# Altium schematic symbol library 10AX090N2F40E2SG.SchLib: 1 symbol
Pins are listed as number, name and electrical type; pins without a type are passive.

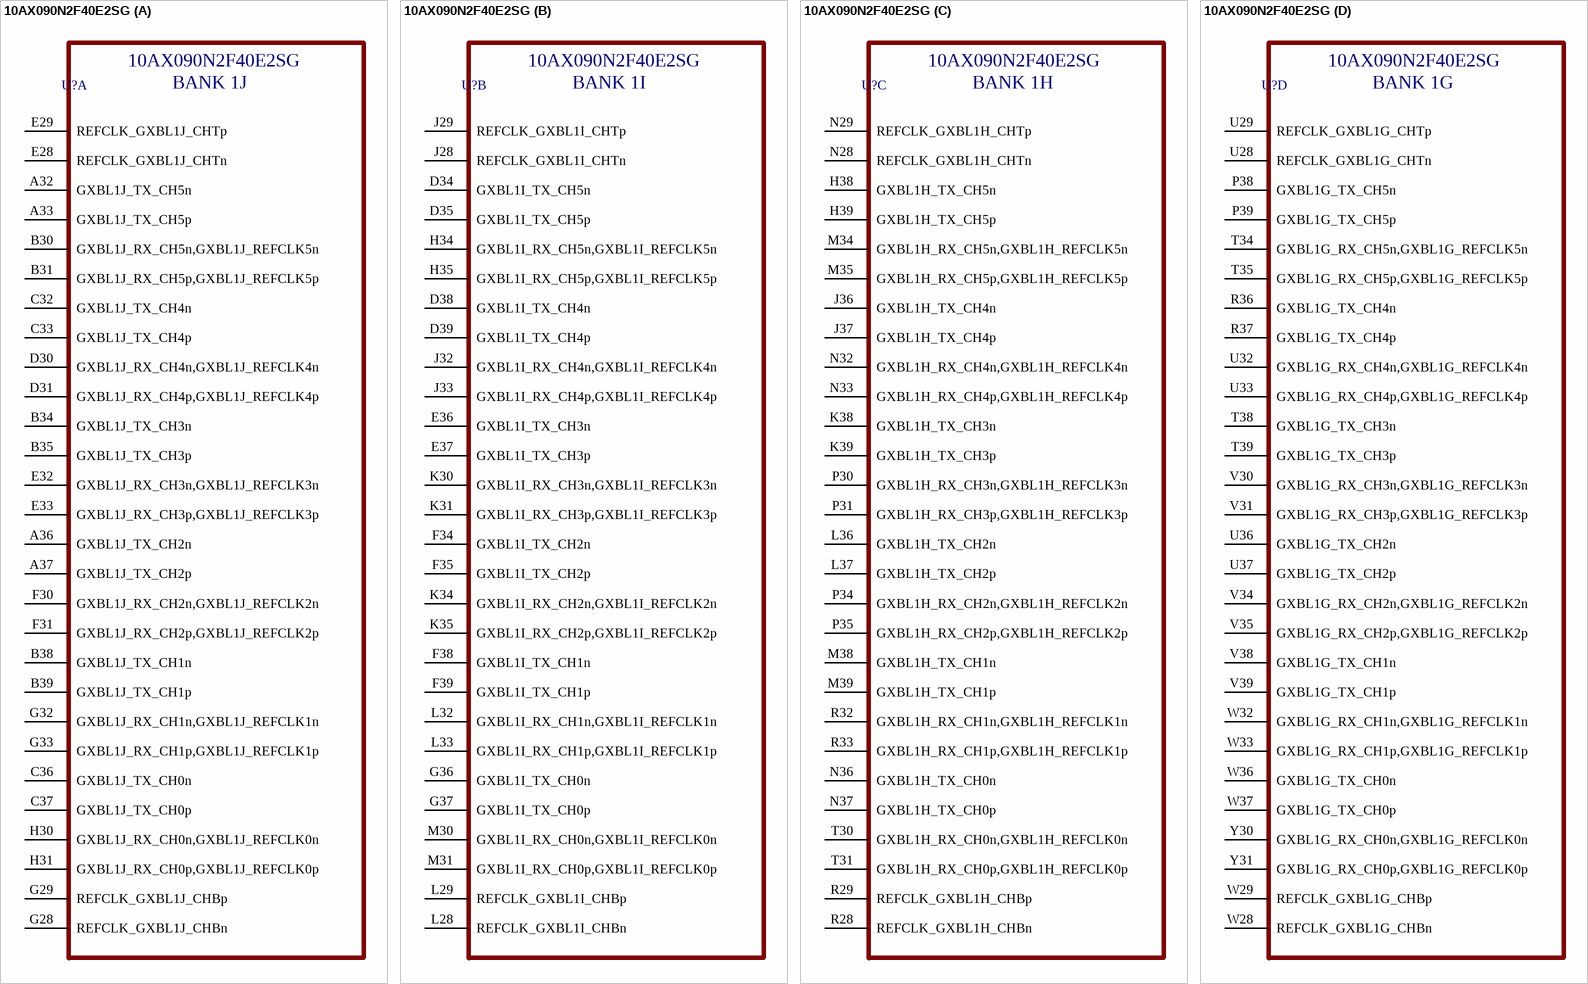
[diagram p0: symbol 10AX090N2F40E2SG]

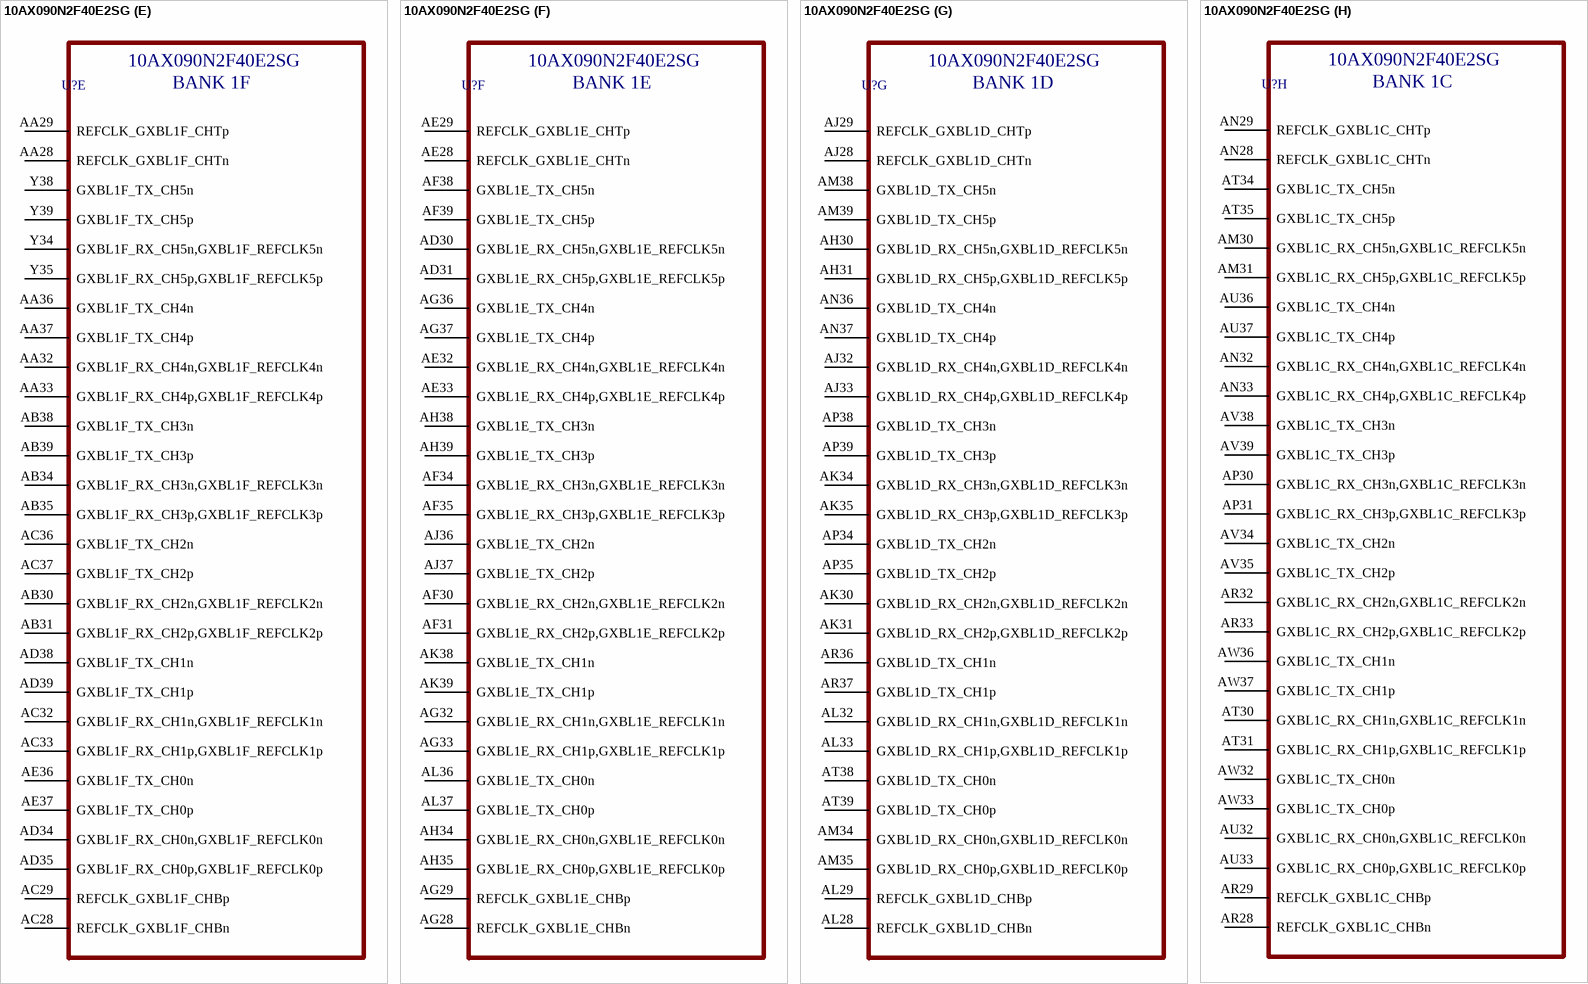
[diagram p1: symbol 10AX090N2F40E2SG]

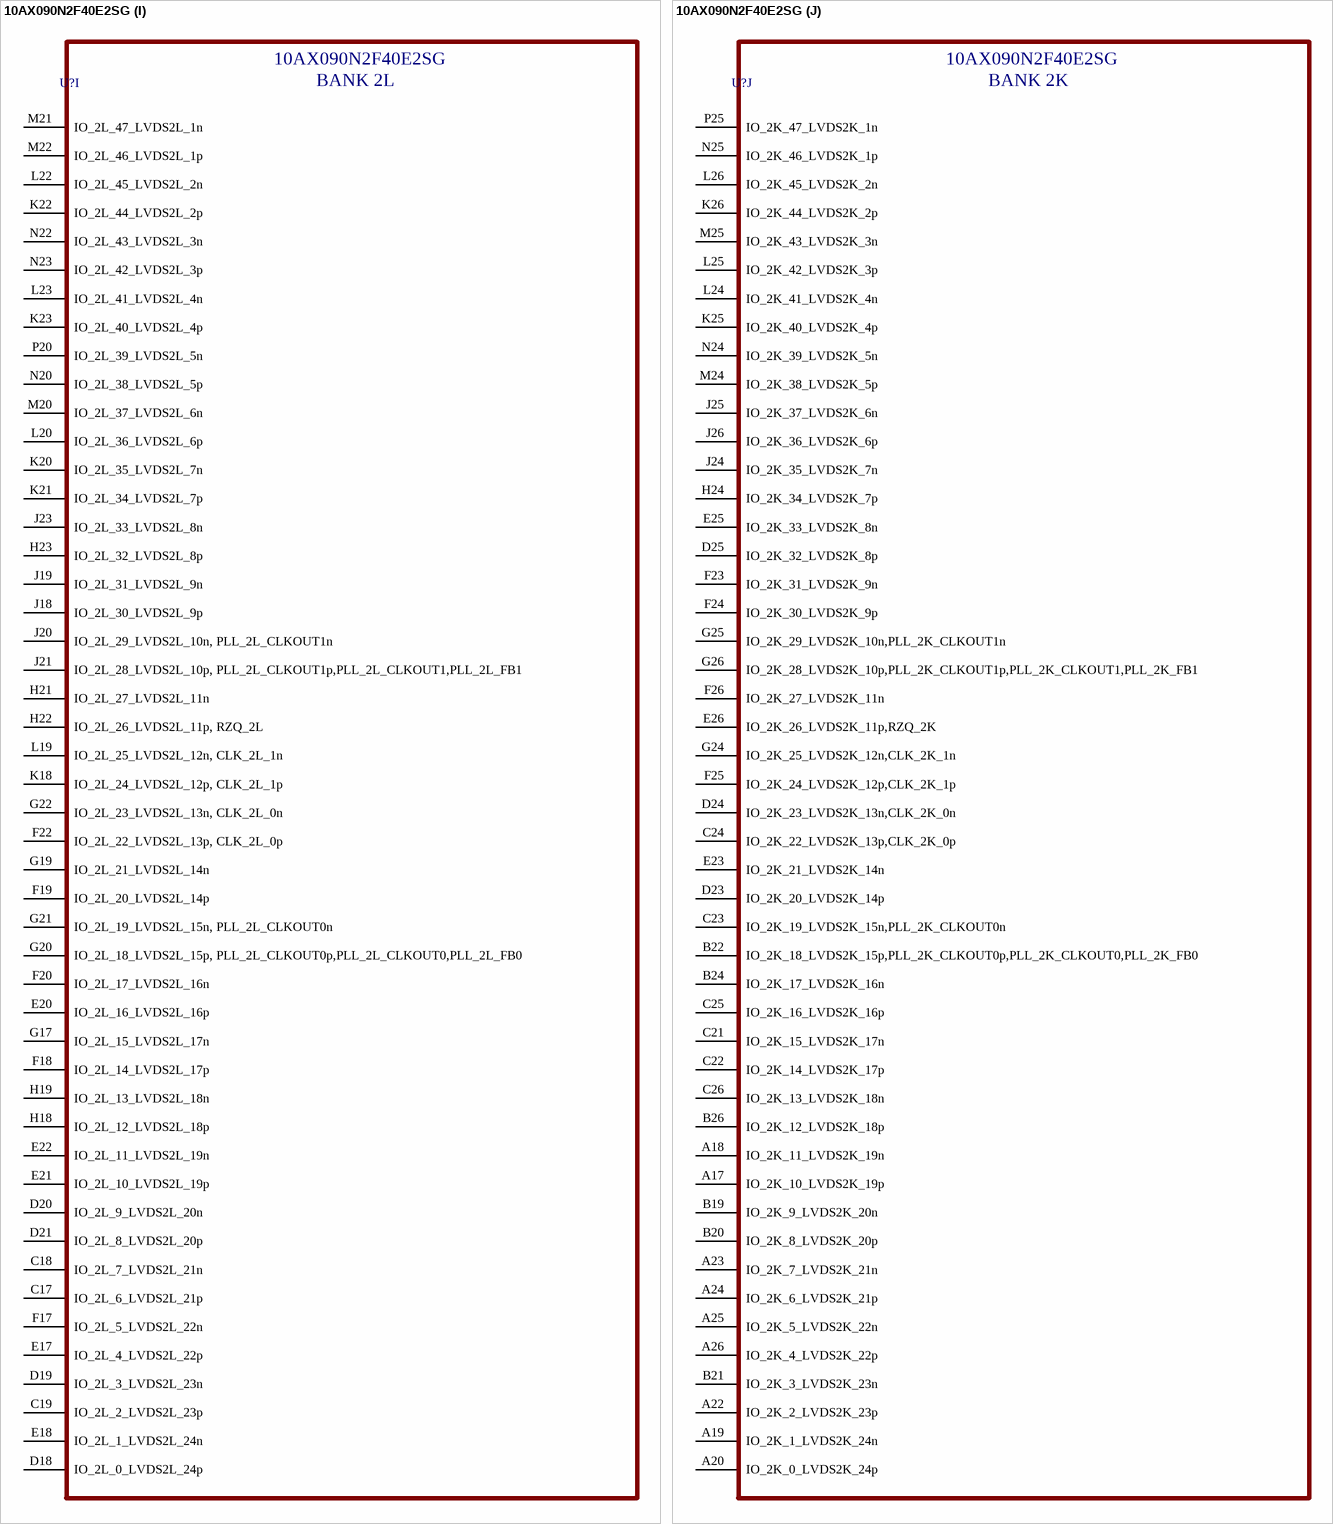
[diagram p2: symbol 10AX090N2F40E2SG]

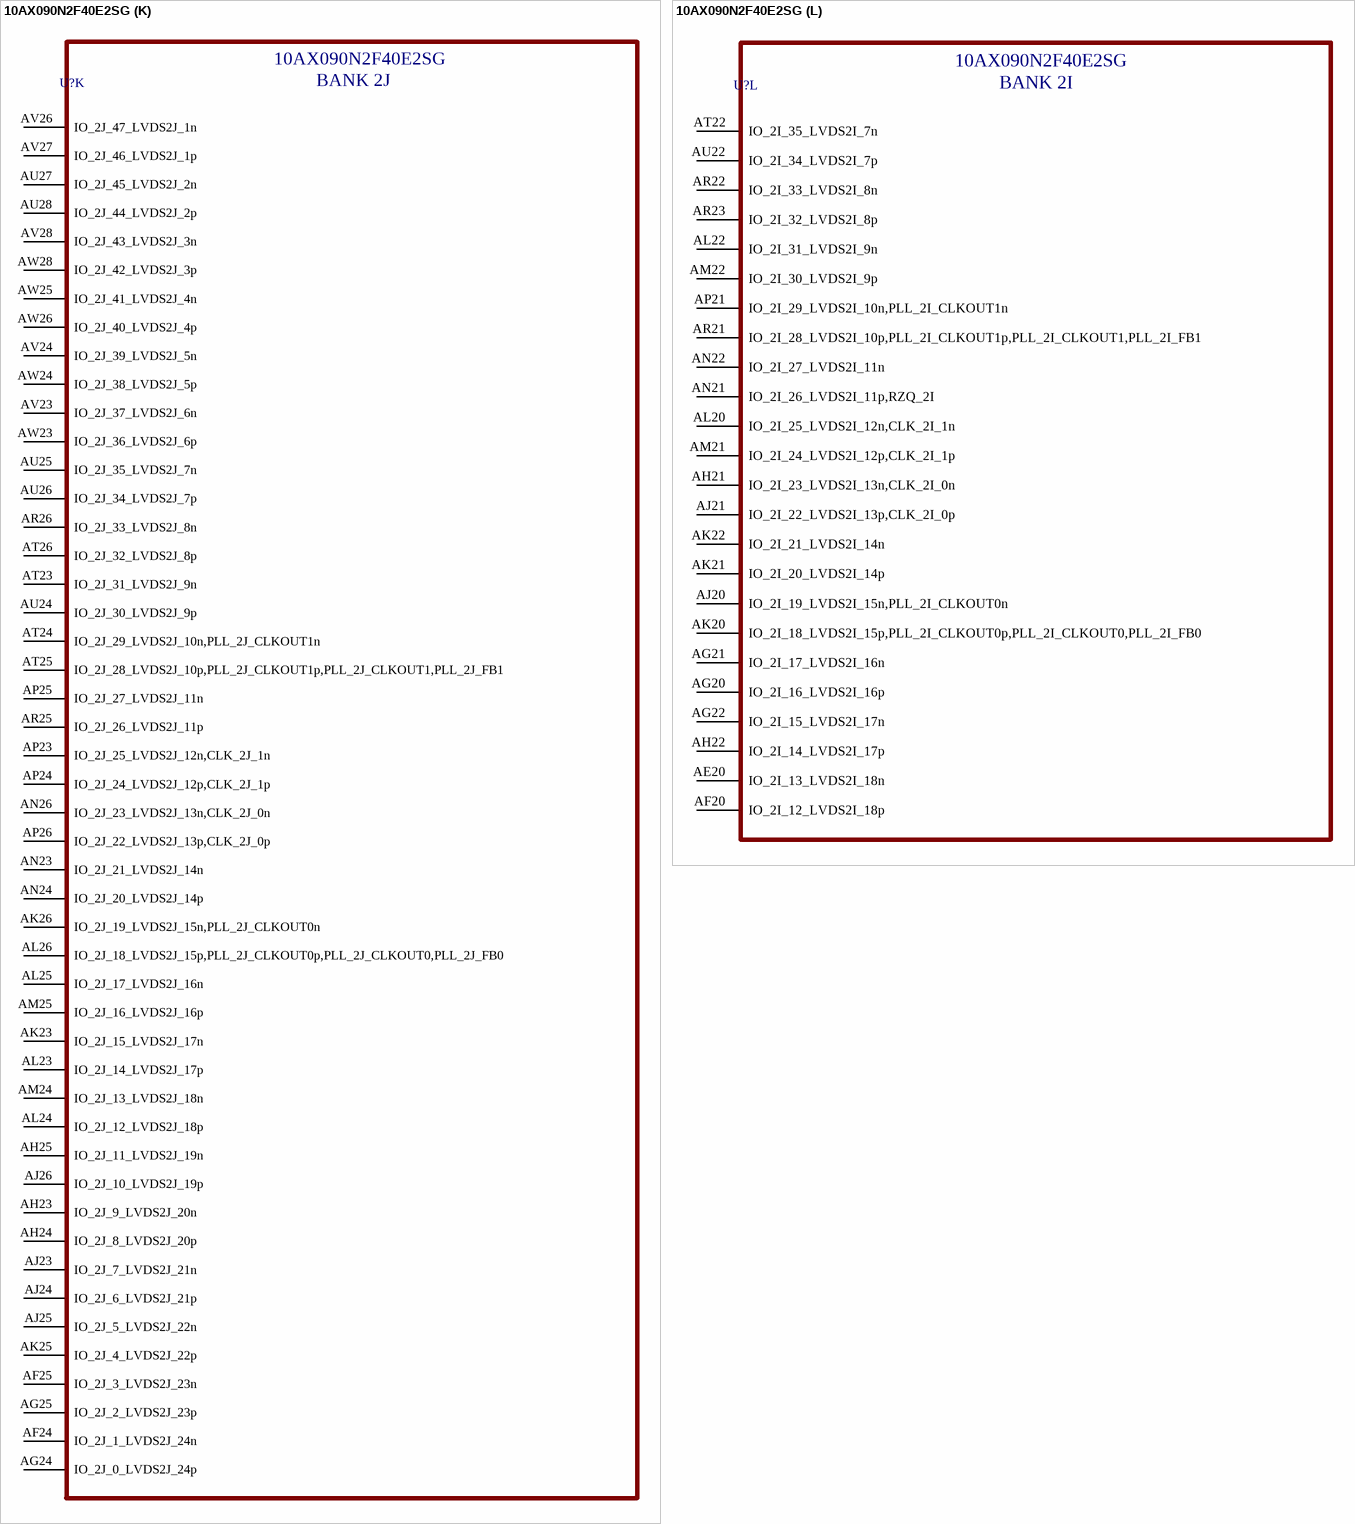
[diagram p3: symbol 10AX090N2F40E2SG]

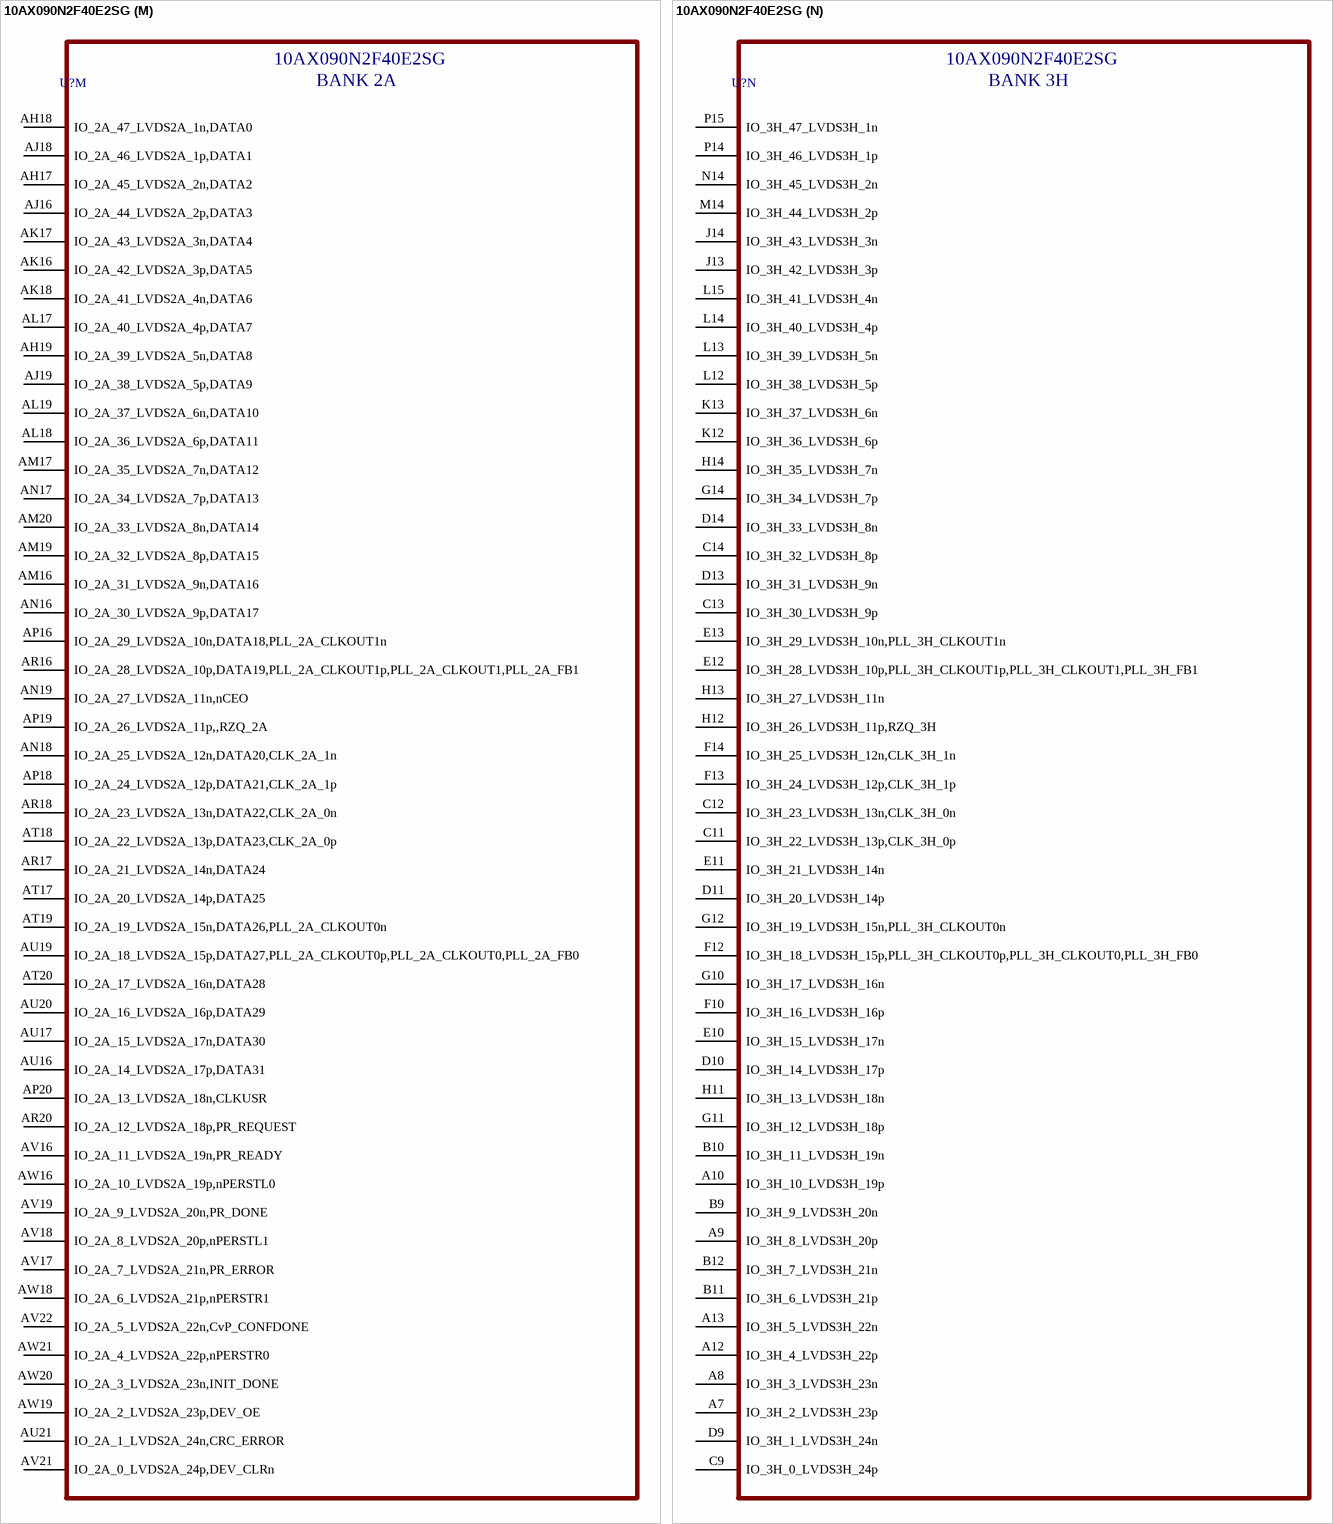
[diagram p4: symbol 10AX090N2F40E2SG]

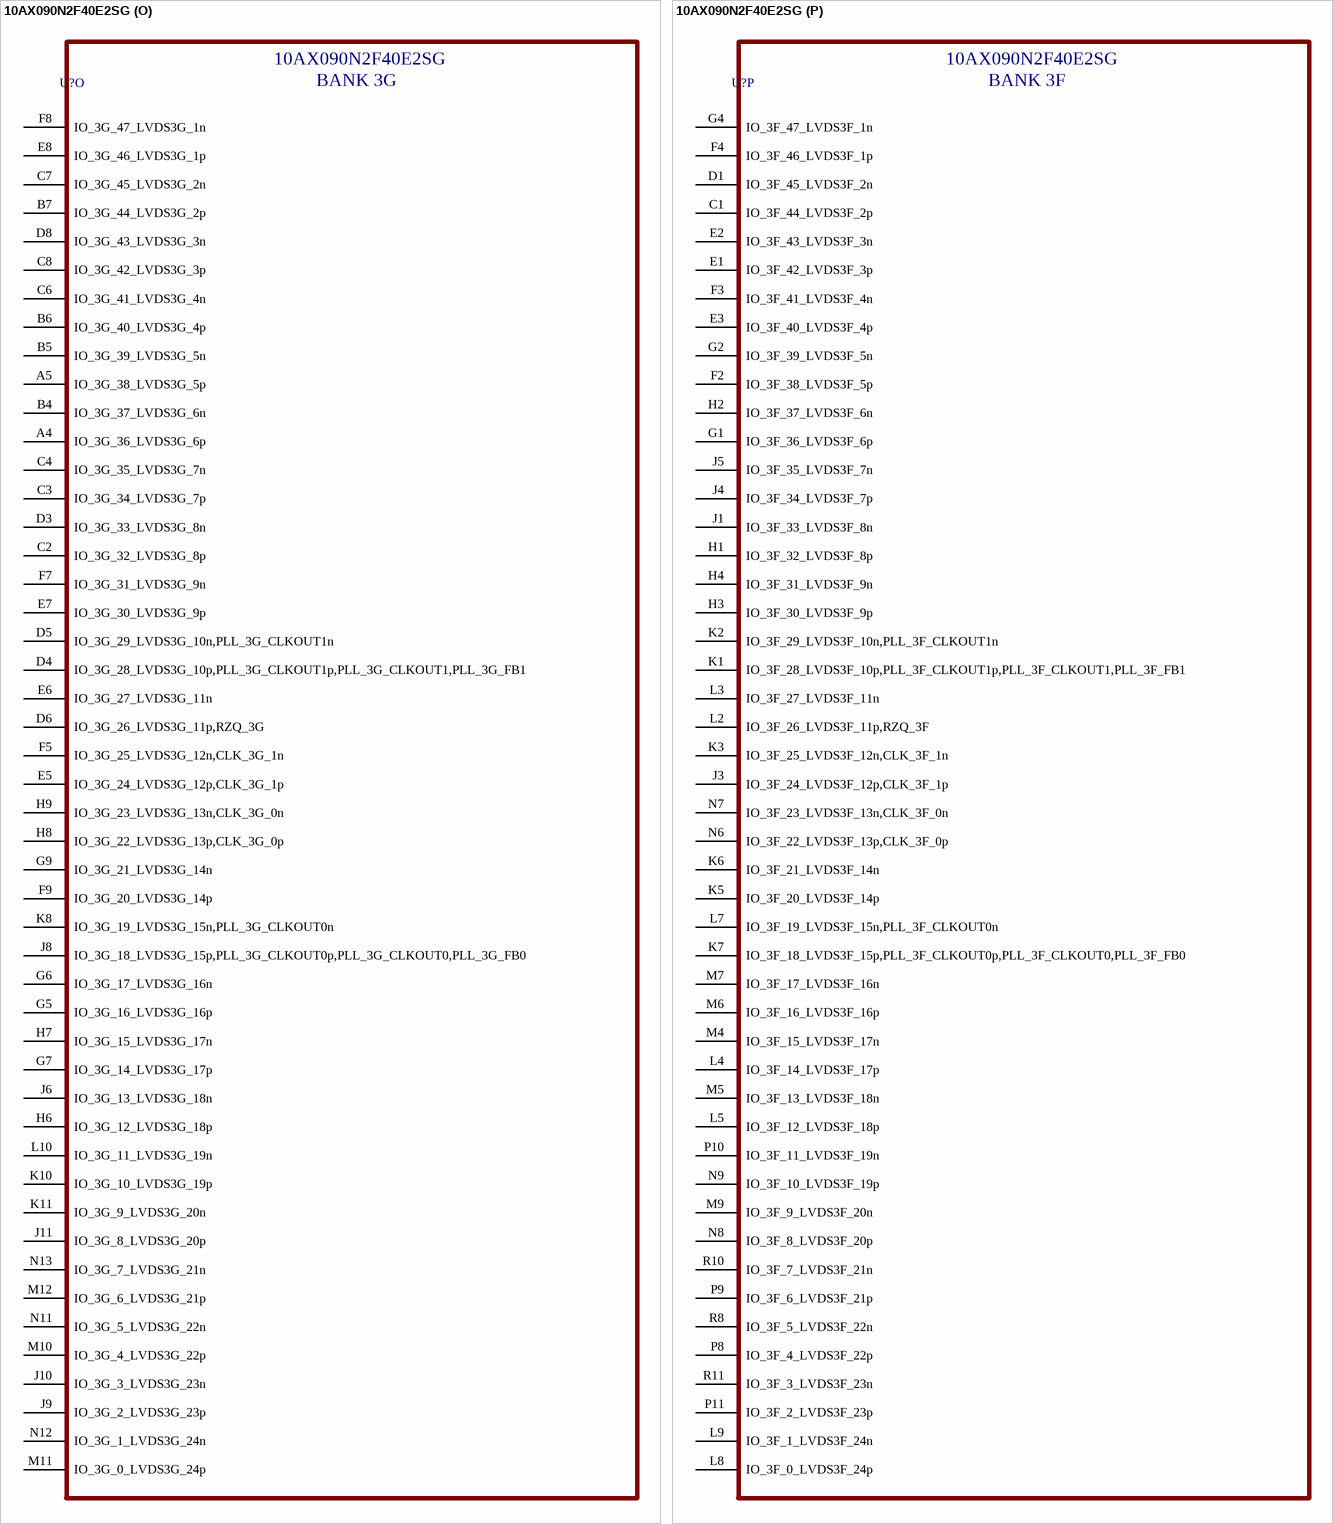
[diagram p5: symbol 10AX090N2F40E2SG]

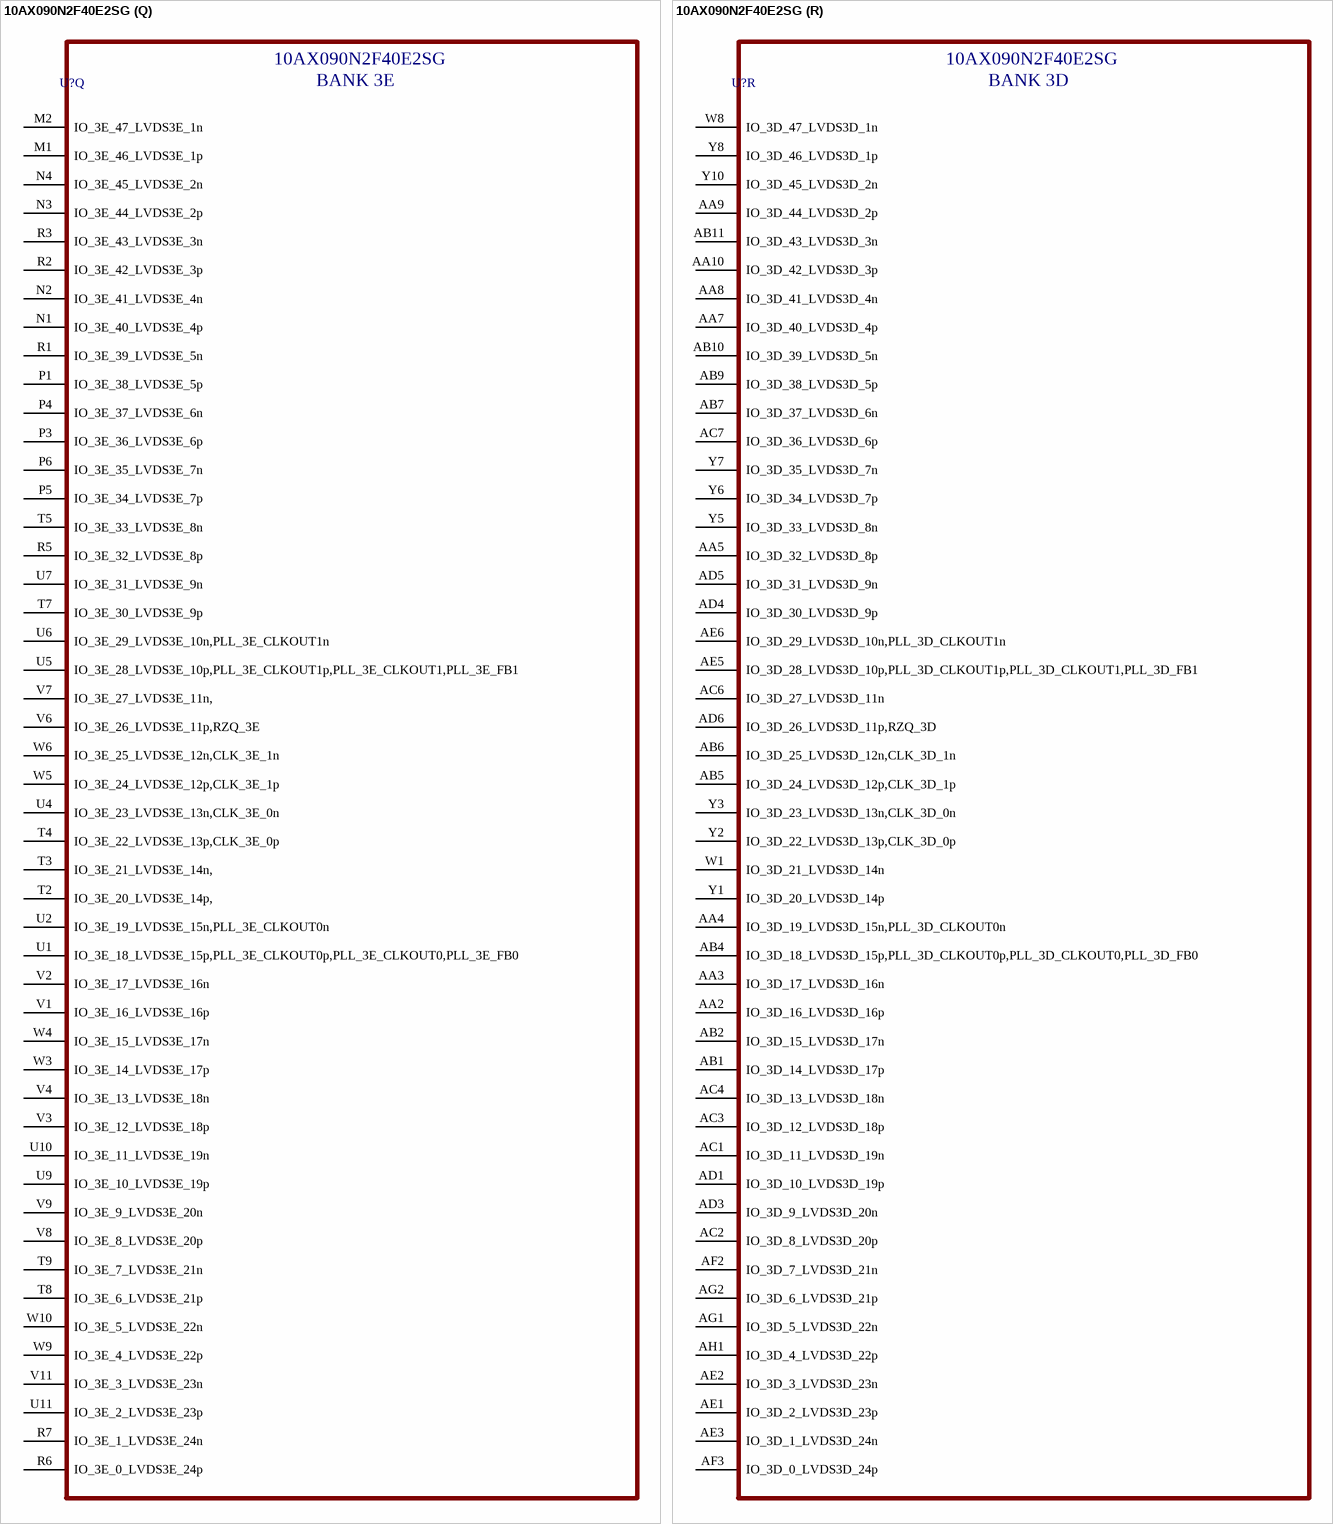
[diagram p6: symbol 10AX090N2F40E2SG]

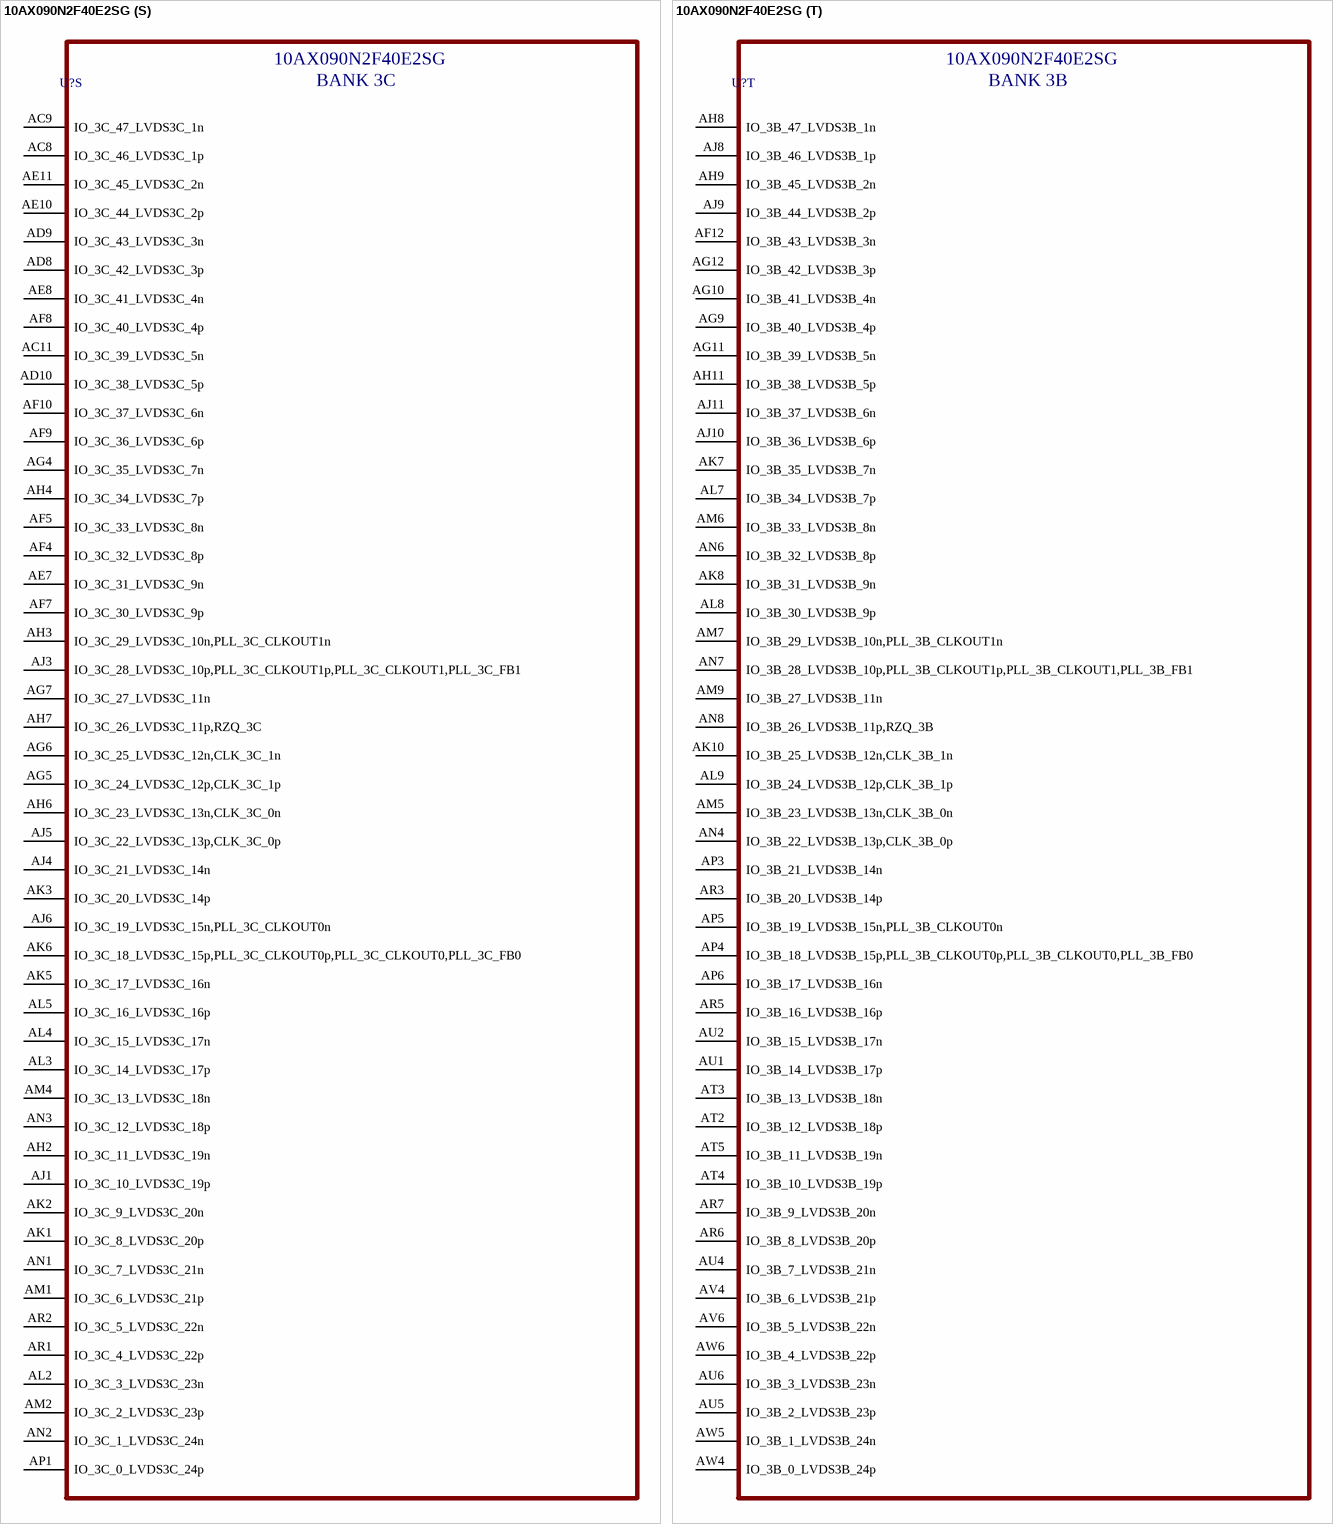
[diagram p7: symbol 10AX090N2F40E2SG]

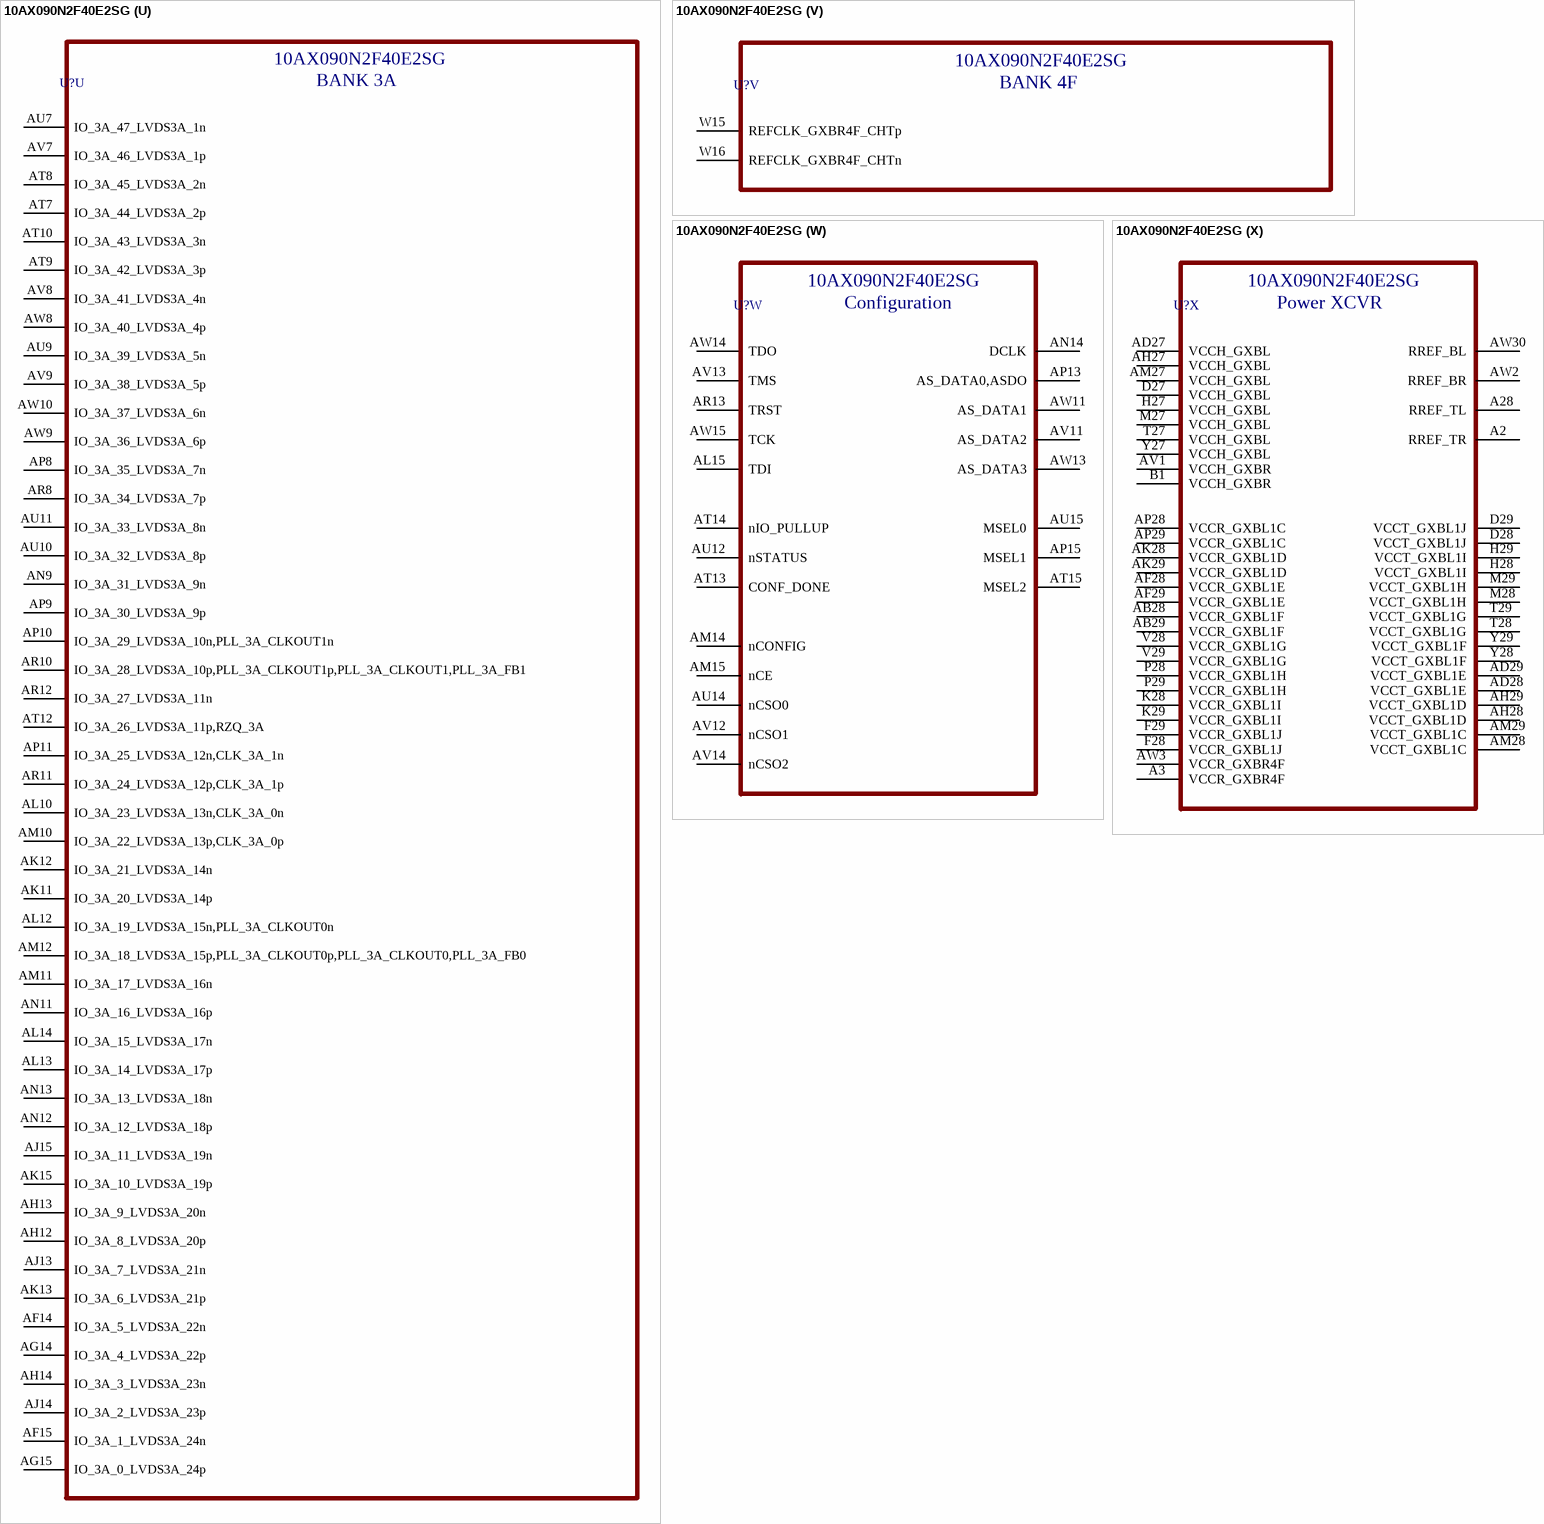
[diagram p8: symbol 10AX090N2F40E2SG]

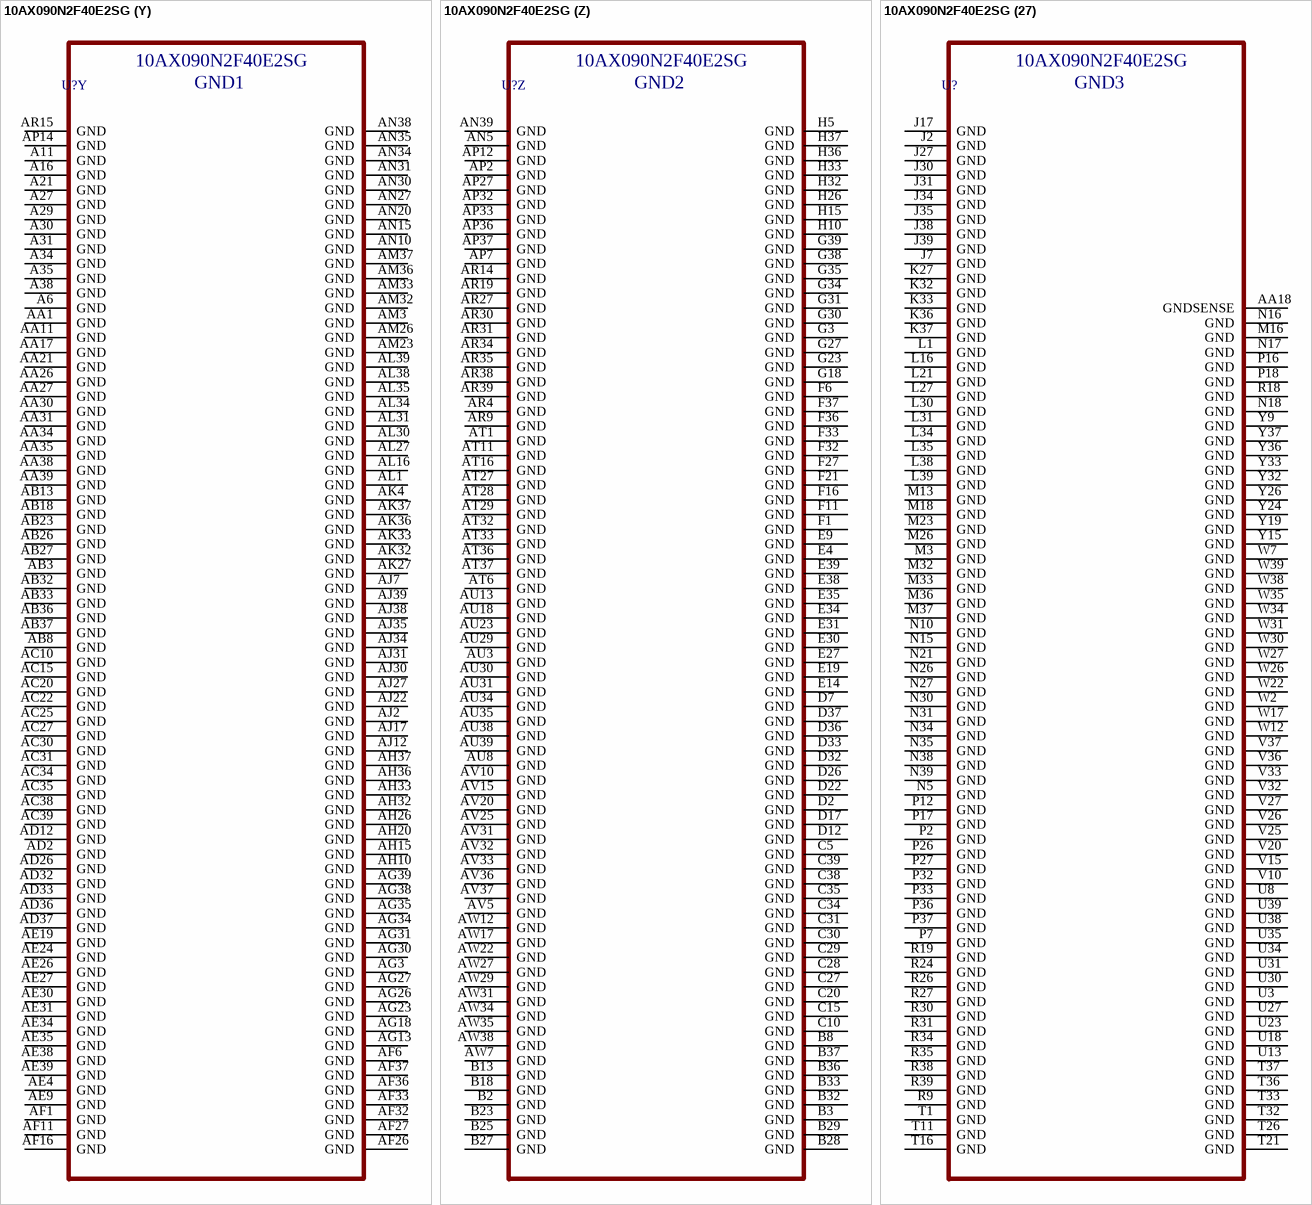
[diagram p9: symbol 10AX090N2F40E2SG]

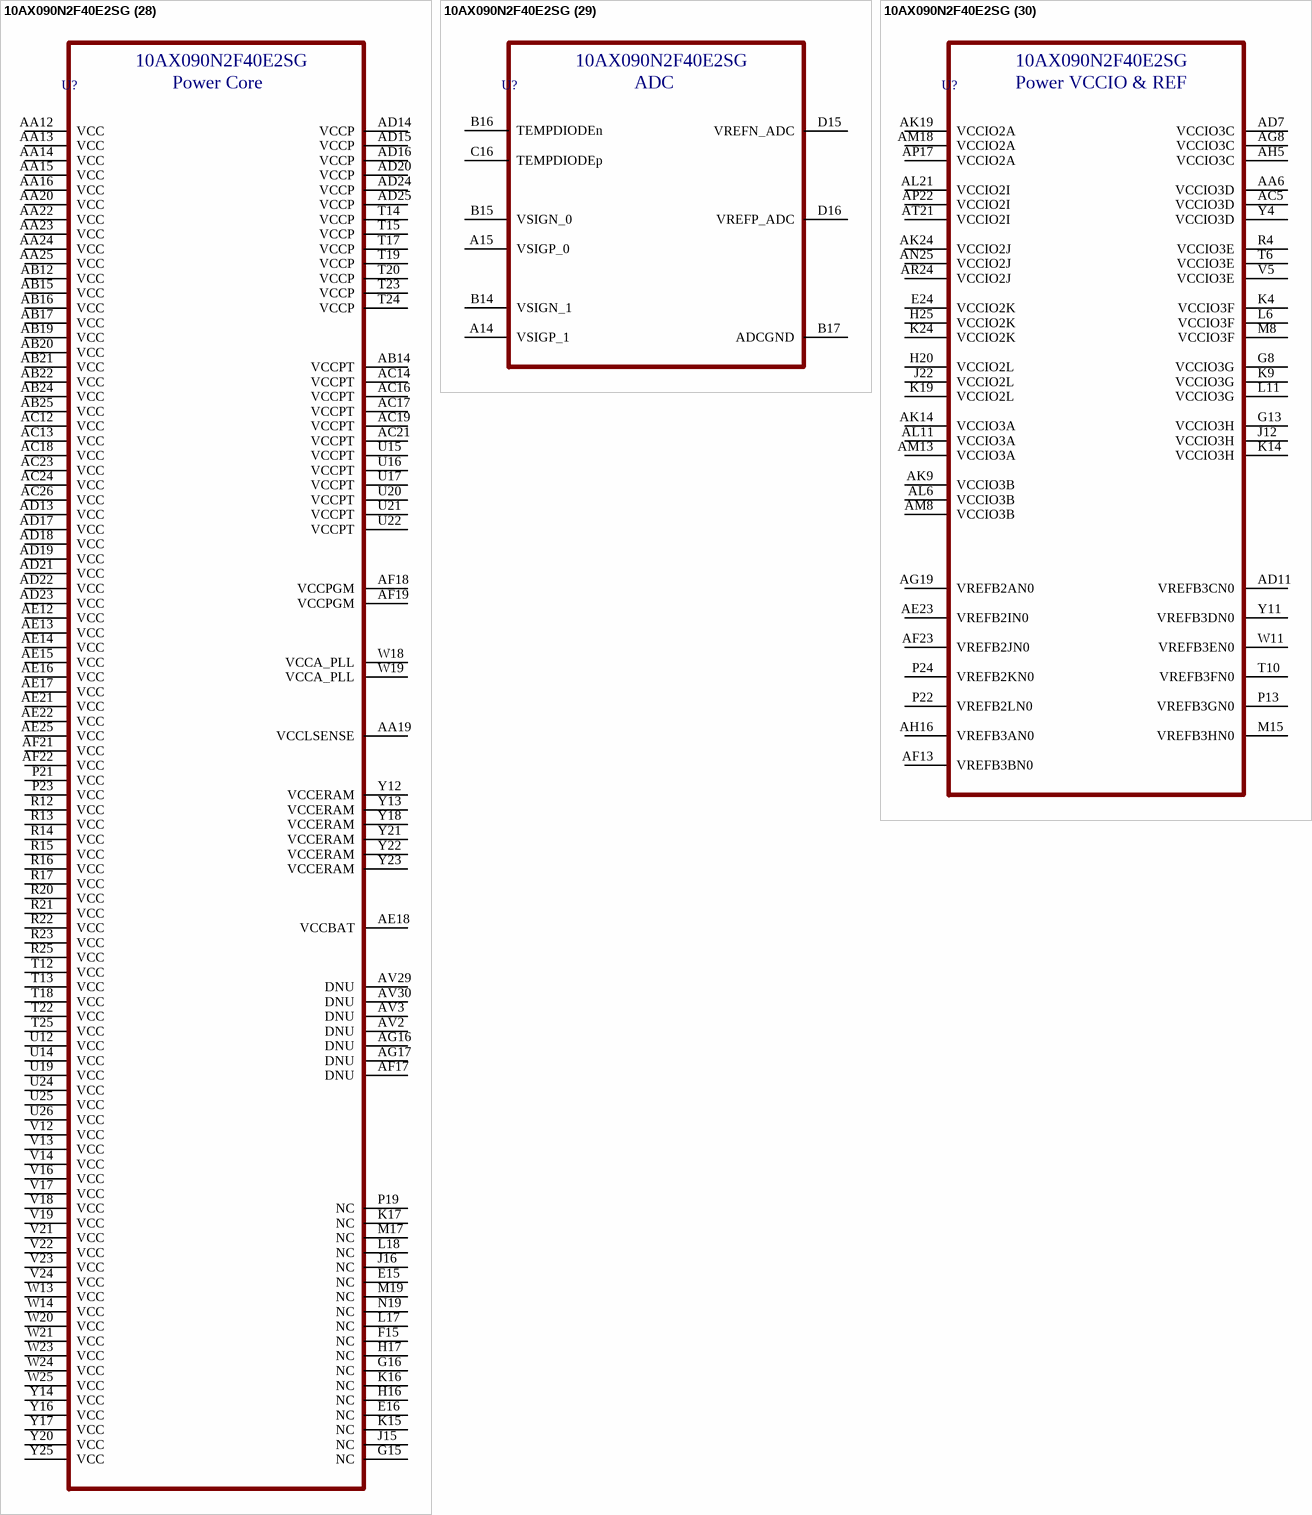
[diagram p10: symbol 10AX090N2F40E2SG]

## 10AX090N2F40E2SG
designator U?
part A pins: A32 GXBL1J_TX_CH5n, A33 GXBL1J_TX_CH5p, A36 GXBL1J_TX_CH2n, A37 GXBL1J_TX_CH2p, B30 GXBL1J_RX_CH5n,GXBL1J_REFCLK5n, B31 GXBL1J_RX_CH5p,GXBL1J_REFCLK5p, B34 GXBL1J_TX_CH3n, B35 GXBL1J_TX_CH3p, B38 GXBL1J_TX_CH1n, B39 GXBL1J_TX_CH1p, C32 GXBL1J_TX_CH4n, C33 GXBL1J_TX_CH4p, C36 GXBL1J_TX_CH0n, C37 GXBL1J_TX_CH0p, D30 GXBL1J_RX_CH4n,GXBL1J_REFCLK4n, D31 GXBL1J_RX_CH4p,GXBL1J_REFCLK4p, E28 REFCLK_GXBL1J_CHTn, E29 REFCLK_GXBL1J_CHTp, E32 GXBL1J_RX_CH3n,GXBL1J_REFCLK3n, E33 GXBL1J_RX_CH3p,GXBL1J_REFCLK3p, F30 GXBL1J_RX_CH2n,GXBL1J_REFCLK2n, F31 GXBL1J_RX_CH2p,GXBL1J_REFCLK2p, G28 REFCLK_GXBL1J_CHBn, G29 REFCLK_GXBL1J_CHBp, G32 GXBL1J_RX_CH1n,GXBL1J_REFCLK1n, G33 GXBL1J_RX_CH1p,GXBL1J_REFCLK1p, H30 GXBL1J_RX_CH0n,GXBL1J_REFCLK0n, H31 GXBL1J_RX_CH0p,GXBL1J_REFCLK0p
part B pins: D34 GXBL1I_TX_CH5n, D35 GXBL1I_TX_CH5p, D38 GXBL1I_TX_CH4n, D39 GXBL1I_TX_CH4p, E36 GXBL1I_TX_CH3n, E37 GXBL1I_TX_CH3p, F34 GXBL1I_TX_CH2n, F35 GXBL1I_TX_CH2p, F38 GXBL1I_TX_CH1n, F39 GXBL1I_TX_CH1p, G36 GXBL1I_TX_CH0n, G37 GXBL1I_TX_CH0p, H34 GXBL1I_RX_CH5n,GXBL1I_REFCLK5n, H35 GXBL1I_RX_CH5p,GXBL1I_REFCLK5p, J28 REFCLK_GXBL1I_CHTn, J29 REFCLK_GXBL1I_CHTp, J32 GXBL1I_RX_CH4n,GXBL1I_REFCLK4n, J33 GXBL1I_RX_CH4p,GXBL1I_REFCLK4p, K30 GXBL1I_RX_CH3n,GXBL1I_REFCLK3n, K31 GXBL1I_RX_CH3p,GXBL1I_REFCLK3p, K34 GXBL1I_RX_CH2n,GXBL1I_REFCLK2n, K35 GXBL1I_RX_CH2p,GXBL1I_REFCLK2p, L28 REFCLK_GXBL1I_CHBn, L29 REFCLK_GXBL1I_CHBp, L32 GXBL1I_RX_CH1n,GXBL1I_REFCLK1n, L33 GXBL1I_RX_CH1p,GXBL1I_REFCLK1p, M30 GXBL1I_RX_CH0n,GXBL1I_REFCLK0n, M31 GXBL1I_RX_CH0p,GXBL1I_REFCLK0p
part C pins: H38 GXBL1H_TX_CH5n, H39 GXBL1H_TX_CH5p, J36 GXBL1H_TX_CH4n, J37 GXBL1H_TX_CH4p, K38 GXBL1H_TX_CH3n, K39 GXBL1H_TX_CH3p, L36 GXBL1H_TX_CH2n, L37 GXBL1H_TX_CH2p, M34 GXBL1H_RX_CH5n,GXBL1H_REFCLK5n, M35 GXBL1H_RX_CH5p,GXBL1H_REFCLK5p, M38 GXBL1H_TX_CH1n, M39 GXBL1H_TX_CH1p, N28 REFCLK_GXBL1H_CHTn, N29 REFCLK_GXBL1H_CHTp, N32 GXBL1H_RX_CH4n,GXBL1H_REFCLK4n, N33 GXBL1H_RX_CH4p,GXBL1H_REFCLK4p, N36 GXBL1H_TX_CH0n, N37 GXBL1H_TX_CH0p, P30 GXBL1H_RX_CH3n,GXBL1H_REFCLK3n, P31 GXBL1H_RX_CH3p,GXBL1H_REFCLK3p, P34 GXBL1H_RX_CH2n,GXBL1H_REFCLK2n, P35 GXBL1H_RX_CH2p,GXBL1H_REFCLK2p, R28 REFCLK_GXBL1H_CHBn, R29 REFCLK_GXBL1H_CHBp, R32 GXBL1H_RX_CH1n,GXBL1H_REFCLK1n, R33 GXBL1H_RX_CH1p,GXBL1H_REFCLK1p, T30 GXBL1H_RX_CH0n,GXBL1H_REFCLK0n, T31 GXBL1H_RX_CH0p,GXBL1H_REFCLK0p
part D pins: P38 GXBL1G_TX_CH5n, P39 GXBL1G_TX_CH5p, R36 GXBL1G_TX_CH4n, R37 GXBL1G_TX_CH4p, T34 GXBL1G_RX_CH5n,GXBL1G_REFCLK5n, T35 GXBL1G_RX_CH5p,GXBL1G_REFCLK5p, T38 GXBL1G_TX_CH3n, T39 GXBL1G_TX_CH3p, U28 REFCLK_GXBL1G_CHTn, U29 REFCLK_GXBL1G_CHTp, U32 GXBL1G_RX_CH4n,GXBL1G_REFCLK4n, U33 GXBL1G_RX_CH4p,GXBL1G_REFCLK4p, U36 GXBL1G_TX_CH2n, U37 GXBL1G_TX_CH2p, V30 GXBL1G_RX_CH3n,GXBL1G_REFCLK3n, V31 GXBL1G_RX_CH3p,GXBL1G_REFCLK3p, V34 GXBL1G_RX_CH2n,GXBL1G_REFCLK2n, V35 GXBL1G_RX_CH2p,GXBL1G_REFCLK2p, V38 GXBL1G_TX_CH1n, V39 GXBL1G_TX_CH1p, W28 REFCLK_GXBL1G_CHBn, W29 REFCLK_GXBL1G_CHBp, W32 GXBL1G_RX_CH1n,GXBL1G_REFCLK1n, W33 GXBL1G_RX_CH1p,GXBL1G_REFCLK1p, W36 GXBL1G_TX_CH0n, W37 GXBL1G_TX_CH0p, Y30 GXBL1G_RX_CH0n,GXBL1G_REFCLK0n, Y31 GXBL1G_RX_CH0p,GXBL1G_REFCLK0p
part E pins: AA28 REFCLK_GXBL1F_CHTn, AA29 REFCLK_GXBL1F_CHTp, AA32 GXBL1F_RX_CH4n,GXBL1F_REFCLK4n, AA33 GXBL1F_RX_CH4p,GXBL1F_REFCLK4p, AA36 GXBL1F_TX_CH4n, AA37 GXBL1F_TX_CH4p, AB30 GXBL1F_RX_CH2n,GXBL1F_REFCLK2n, AB31 GXBL1F_RX_CH2p,GXBL1F_REFCLK2p, AB34 GXBL1F_RX_CH3n,GXBL1F_REFCLK3n, AB35 GXBL1F_RX_CH3p,GXBL1F_REFCLK3p, AB38 GXBL1F_TX_CH3n, AB39 GXBL1F_TX_CH3p, AC28 REFCLK_GXBL1F_CHBn, AC29 REFCLK_GXBL1F_CHBp, AC32 GXBL1F_RX_CH1n,GXBL1F_REFCLK1n, AC33 GXBL1F_RX_CH1p,GXBL1F_REFCLK1p, AC36 GXBL1F_TX_CH2n, AC37 GXBL1F_TX_CH2p, AD34 GXBL1F_RX_CH0n,GXBL1F_REFCLK0n, AD35 GXBL1F_RX_CH0p,GXBL1F_REFCLK0p, AD38 GXBL1F_TX_CH1n, AD39 GXBL1F_TX_CH1p, AE36 GXBL1F_TX_CH0n, AE37 GXBL1F_TX_CH0p, Y34 GXBL1F_RX_CH5n,GXBL1F_REFCLK5n, Y35 GXBL1F_RX_CH5p,GXBL1F_REFCLK5p, Y38 GXBL1F_TX_CH5n, Y39 GXBL1F_TX_CH5p
part F pins: AD30 GXBL1E_RX_CH5n,GXBL1E_REFCLK5n, AD31 GXBL1E_RX_CH5p,GXBL1E_REFCLK5p, AE28 REFCLK_GXBL1E_CHTn, AE29 REFCLK_GXBL1E_CHTp, AE32 GXBL1E_RX_CH4n,GXBL1E_REFCLK4n, AE33 GXBL1E_RX_CH4p,GXBL1E_REFCLK4p, AF30 GXBL1E_RX_CH2n,GXBL1E_REFCLK2n, AF31 GXBL1E_RX_CH2p,GXBL1E_REFCLK2p, AF34 GXBL1E_RX_CH3n,GXBL1E_REFCLK3n, AF35 GXBL1E_RX_CH3p,GXBL1E_REFCLK3p, AF38 GXBL1E_TX_CH5n, AF39 GXBL1E_TX_CH5p, AG28 REFCLK_GXBL1E_CHBn, AG29 REFCLK_GXBL1E_CHBp, AG32 GXBL1E_RX_CH1n,GXBL1E_REFCLK1n, AG33 GXBL1E_RX_CH1p,GXBL1E_REFCLK1p, AG36 GXBL1E_TX_CH4n, AG37 GXBL1E_TX_CH4p, AH34 GXBL1E_RX_CH0n,GXBL1E_REFCLK0n, AH35 GXBL1E_RX_CH0p,GXBL1E_REFCLK0p, AH38 GXBL1E_TX_CH3n, AH39 GXBL1E_TX_CH3p, AJ36 GXBL1E_TX_CH2n, AJ37 GXBL1E_TX_CH2p, AK38 GXBL1E_TX_CH1n, AK39 GXBL1E_TX_CH1p, AL36 GXBL1E_TX_CH0n, AL37 GXBL1E_TX_CH0p
part G pins: AH30 GXBL1D_RX_CH5n,GXBL1D_REFCLK5n, AH31 GXBL1D_RX_CH5p,GXBL1D_REFCLK5p, AJ28 REFCLK_GXBL1D_CHTn, AJ29 REFCLK_GXBL1D_CHTp, AJ32 GXBL1D_RX_CH4n,GXBL1D_REFCLK4n, AJ33 GXBL1D_RX_CH4p,GXBL1D_REFCLK4p, AK30 GXBL1D_RX_CH2n,GXBL1D_REFCLK2n, AK31 GXBL1D_RX_CH2p,GXBL1D_REFCLK2p, AK34 GXBL1D_RX_CH3n,GXBL1D_REFCLK3n, AK35 GXBL1D_RX_CH3p,GXBL1D_REFCLK3p, AL28 REFCLK_GXBL1D_CHBn, AL29 REFCLK_GXBL1D_CHBp, AL32 GXBL1D_RX_CH1n,GXBL1D_REFCLK1n, AL33 GXBL1D_RX_CH1p,GXBL1D_REFCLK1p, AM34 GXBL1D_RX_CH0n,GXBL1D_REFCLK0n, AM35 GXBL1D_RX_CH0p,GXBL1D_REFCLK0p, AM38 GXBL1D_TX_CH5n, AM39 GXBL1D_TX_CH5p, AN36 GXBL1D_TX_CH4n, AN37 GXBL1D_TX_CH4p, AP34 GXBL1D_TX_CH2n, AP35 GXBL1D_TX_CH2p, AP38 GXBL1D_TX_CH3n, AP39 GXBL1D_TX_CH3p, AR36 GXBL1D_TX_CH1n, AR37 GXBL1D_TX_CH1p, AT38 GXBL1D_TX_CH0n, AT39 GXBL1D_TX_CH0p
part H pins: AM30 GXBL1C_RX_CH5n,GXBL1C_REFCLK5n, AM31 GXBL1C_RX_CH5p,GXBL1C_REFCLK5p, AN28 REFCLK_GXBL1C_CHTn, AN29 REFCLK_GXBL1C_CHTp, AN32 GXBL1C_RX_CH4n,GXBL1C_REFCLK4n, AN33 GXBL1C_RX_CH4p,GXBL1C_REFCLK4p, AP30 GXBL1C_RX_CH3n,GXBL1C_REFCLK3n, AP31 GXBL1C_RX_CH3p,GXBL1C_REFCLK3p, AR28 REFCLK_GXBL1C_CHBn, AR29 REFCLK_GXBL1C_CHBp, AR32 GXBL1C_RX_CH2n,GXBL1C_REFCLK2n, AR33 GXBL1C_RX_CH2p,GXBL1C_REFCLK2p, AT30 GXBL1C_RX_CH1n,GXBL1C_REFCLK1n, AT31 GXBL1C_RX_CH1p,GXBL1C_REFCLK1p, AT34 GXBL1C_TX_CH5n, AT35 GXBL1C_TX_CH5p, AU32 GXBL1C_RX_CH0n,GXBL1C_REFCLK0n, AU33 GXBL1C_RX_CH0p,GXBL1C_REFCLK0p, AU36 GXBL1C_TX_CH4n, AU37 GXBL1C_TX_CH4p, AV34 GXBL1C_TX_CH2n, AV35 GXBL1C_TX_CH2p, AV38 GXBL1C_TX_CH3n, AV39 GXBL1C_TX_CH3p, AW32 GXBL1C_TX_CH0n, AW33 GXBL1C_TX_CH0p, AW36 GXBL1C_TX_CH1n, AW37 GXBL1C_TX_CH1p
part I pins: C17 IO_2L_6_LVDS2L_21p, C18 IO_2L_7_LVDS2L_21n, C19 IO_2L_2_LVDS2L_23p, D18 IO_2L_0_LVDS2L_24p, D19 IO_2L_3_LVDS2L_23n, D20 IO_2L_9_LVDS2L_20n, D21 IO_2L_8_LVDS2L_20p, E17 IO_2L_4_LVDS2L_22p, E18 IO_2L_1_LVDS2L_24n, E20 IO_2L_16_LVDS2L_16p, E21 IO_2L_10_LVDS2L_19p, E22 IO_2L_11_LVDS2L_19n, F17 IO_2L_5_LVDS2L_22n, F18 IO_2L_14_LVDS2L_17p, F19 IO_2L_20_LVDS2L_14p, F20 IO_2L_17_LVDS2L_16n, F22 IO_2L_22_LVDS2L_13p, CLK_2L_0p, G17 IO_2L_15_LVDS2L_17n, G19 IO_2L_21_LVDS2L_14n, G20 IO_2L_18_LVDS2L_15p, PLL_2L_CLKOUT0p,PLL_2L_CLKOUT0,PLL_2L_FB0, G21 IO_2L_19_LVDS2L_15n, PLL_2L_CLKOUT0n, G22 IO_2L_23_LVDS2L_13n, CLK_2L_0n, H18 IO_2L_12_LVDS2L_18p, H19 IO_2L_13_LVDS2L_18n, H21 IO_2L_27_LVDS2L_11n, H22 IO_2L_26_LVDS2L_11p, RZQ_2L, H23 IO_2L_32_LVDS2L_8p, J18 IO_2L_30_LVDS2L_9p, J19 IO_2L_31_LVDS2L_9n, J20 IO_2L_29_LVDS2L_10n, PLL_2L_CLKOUT1n, J21 IO_2L_28_LVDS2L_10p, PLL_2L_CLKOUT1p,PLL_2L_CLKOUT1,PLL_2L_FB1, J23 IO_2L_33_LVDS2L_8n, K18 IO_2L_24_LVDS2L_12p, CLK_2L_1p, K20 IO_2L_35_LVDS2L_7n, K21 IO_2L_34_LVDS2L_7p, K22 IO_2L_44_LVDS2L_2p, K23 IO_2L_40_LVDS2L_4p, L19 IO_2L_25_LVDS2L_12n, CLK_2L_1n, L20 IO_2L_36_LVDS2L_6p, L22 IO_2L_45_LVDS2L_2n, L23 IO_2L_41_LVDS2L_4n, M20 IO_2L_37_LVDS2L_6n, M21 IO_2L_47_LVDS2L_1n, M22 IO_2L_46_LVDS2L_1p, N20 IO_2L_38_LVDS2L_5p, N22 IO_2L_43_LVDS2L_3n, N23 IO_2L_42_LVDS2L_3p, P20 IO_2L_39_LVDS2L_5n
part J pins: A17 IO_2K_10_LVDS2K_19p, A18 IO_2K_11_LVDS2K_19n, A19 IO_2K_1_LVDS2K_24n, A20 IO_2K_0_LVDS2K_24p, A22 IO_2K_2_LVDS2K_23p, A23 IO_2K_7_LVDS2K_21n, A24 IO_2K_6_LVDS2K_21p, A25 IO_2K_5_LVDS2K_22n, A26 IO_2K_4_LVDS2K_22p, B19 IO_2K_9_LVDS2K_20n, B20 IO_2K_8_LVDS2K_20p, B21 IO_2K_3_LVDS2K_23n, B22 IO_2K_18_LVDS2K_15p,PLL_2K_CLKOUT0p,PLL_2K_CLKOUT0,PLL_2K_FB0, B24 IO_2K_17_LVDS2K_16n, B26 IO_2K_12_LVDS2K_18p, C21 IO_2K_15_LVDS2K_17n, C22 IO_2K_14_LVDS2K_17p, C23 IO_2K_19_LVDS2K_15n,PLL_2K_CLKOUT0n, C24 IO_2K_22_LVDS2K_13p,CLK_2K_0p, C25 IO_2K_16_LVDS2K_16p, C26 IO_2K_13_LVDS2K_18n, D23 IO_2K_20_LVDS2K_14p, D24 IO_2K_23_LVDS2K_13n,CLK_2K_0n, D25 IO_2K_32_LVDS2K_8p, E23 IO_2K_21_LVDS2K_14n, E25 IO_2K_33_LVDS2K_8n, E26 IO_2K_26_LVDS2K_11p,RZQ_2K, F23 IO_2K_31_LVDS2K_9n, F24 IO_2K_30_LVDS2K_9p, F25 IO_2K_24_LVDS2K_12p,CLK_2K_1p, F26 IO_2K_27_LVDS2K_11n, G24 IO_2K_25_LVDS2K_12n,CLK_2K_1n, G25 IO_2K_29_LVDS2K_10n,PLL_2K_CLKOUT1n, G26 IO_2K_28_LVDS2K_10p,PLL_2K_CLKOUT1p,PLL_2K_CLKOUT1,PLL_2K_FB1, H24 IO_2K_34_LVDS2K_7p, J24 IO_2K_35_LVDS2K_7n, J25 IO_2K_37_LVDS2K_6n, J26 IO_2K_36_LVDS2K_6p, K25 IO_2K_40_LVDS2K_4p, K26 IO_2K_44_LVDS2K_2p, L24 IO_2K_41_LVDS2K_4n, L25 IO_2K_42_LVDS2K_3p, L26 IO_2K_45_LVDS2K_2n, M24 IO_2K_38_LVDS2K_5p, M25 IO_2K_43_LVDS2K_3n, N24 IO_2K_39_LVDS2K_5n, N25 IO_2K_46_LVDS2K_1p, P25 IO_2K_47_LVDS2K_1n
part K pins: AF24 IO_2J_1_LVDS2J_24n, AF25 IO_2J_3_LVDS2J_23n, AG24 IO_2J_0_LVDS2J_24p, AG25 IO_2J_2_LVDS2J_23p, AH23 IO_2J_9_LVDS2J_20n, AH24 IO_2J_8_LVDS2J_20p, AH25 IO_2J_11_LVDS2J_19n, AJ23 IO_2J_7_LVDS2J_21n, AJ24 IO_2J_6_LVDS2J_21p, AJ25 IO_2J_5_LVDS2J_22n, AJ26 IO_2J_10_LVDS2J_19p, AK23 IO_2J_15_LVDS2J_17n, AK25 IO_2J_4_LVDS2J_22p, AK26 IO_2J_19_LVDS2J_15n,PLL_2J_CLKOUT0n, AL23 IO_2J_14_LVDS2J_17p, AL24 IO_2J_12_LVDS2J_18p, AL25 IO_2J_17_LVDS2J_16n, AL26 IO_2J_18_LVDS2J_15p,PLL_2J_CLKOUT0p,PLL_2J_CLKOUT0,PLL_2J_FB0, AM24 IO_2J_13_LVDS2J_18n, AM25 IO_2J_16_LVDS2J_16p, AN23 IO_2J_21_LVDS2J_14n, AN24 IO_2J_20_LVDS2J_14p, AN26 IO_2J_23_LVDS2J_13n,CLK_2J_0n, AP23 IO_2J_25_LVDS2J_12n,CLK_2J_1n, AP24 IO_2J_24_LVDS2J_12p,CLK_2J_1p, AP25 IO_2J_27_LVDS2J_11n, AP26 IO_2J_22_LVDS2J_13p,CLK_2J_0p, AR25 IO_2J_26_LVDS2J_11p, AR26 IO_2J_33_LVDS2J_8n, AT23 IO_2J_31_LVDS2J_9n, AT24 IO_2J_29_LVDS2J_10n,PLL_2J_CLKOUT1n, AT25 IO_2J_28_LVDS2J_10p,PLL_2J_CLKOUT1p,PLL_2J_CLKOUT1,PLL_2J_FB1, AT26 IO_2J_32_LVDS2J_8p, AU24 IO_2J_30_LVDS2J_9p, AU25 IO_2J_35_LVDS2J_7n, AU26 IO_2J_34_LVDS2J_7p, AU27 IO_2J_45_LVDS2J_2n, AU28 IO_2J_44_LVDS2J_2p, AV23 IO_2J_37_LVDS2J_6n, AV24 IO_2J_39_LVDS2J_5n, AV26 IO_2J_47_LVDS2J_1n, AV27 IO_2J_46_LVDS2J_1p, AV28 IO_2J_43_LVDS2J_3n, AW23 IO_2J_36_LVDS2J_6p, AW24 IO_2J_38_LVDS2J_5p, AW25 IO_2J_41_LVDS2J_4n, AW26 IO_2J_40_LVDS2J_4p, AW28 IO_2J_42_LVDS2J_3p
part L pins: AE20 IO_2I_13_LVDS2I_18n, AF20 IO_2I_12_LVDS2I_18p, AG20 IO_2I_16_LVDS2I_16p, AG21 IO_2I_17_LVDS2I_16n, AG22 IO_2I_15_LVDS2I_17n, AH21 IO_2I_23_LVDS2I_13n,CLK_2I_0n, AH22 IO_2I_14_LVDS2I_17p, AJ20 IO_2I_19_LVDS2I_15n,PLL_2I_CLKOUT0n, AJ21 IO_2I_22_LVDS2I_13p,CLK_2I_0p, AK20 IO_2I_18_LVDS2I_15p,PLL_2I_CLKOUT0p,PLL_2I_CLKOUT0,PLL_2I_FB0, AK21 IO_2I_20_LVDS2I_14p, AK22 IO_2I_21_LVDS2I_14n, AL20 IO_2I_25_LVDS2I_12n,CLK_2I_1n, AL22 IO_2I_31_LVDS2I_9n, AM21 IO_2I_24_LVDS2I_12p,CLK_2I_1p, AM22 IO_2I_30_LVDS2I_9p, AN21 IO_2I_26_LVDS2I_11p,RZQ_2I, AN22 IO_2I_27_LVDS2I_11n, AP21 IO_2I_29_LVDS2I_10n,PLL_2I_CLKOUT1n, AR21 IO_2I_28_LVDS2I_10p,PLL_2I_CLKOUT1p,PLL_2I_CLKOUT1,PLL_2I_FB1, AR22 IO_2I_33_LVDS2I_8n, AR23 IO_2I_32_LVDS2I_8p, AT22 IO_2I_35_LVDS2I_7n, AU22 IO_2I_34_LVDS2I_7p
part M pins: AH17 IO_2A_45_LVDS2A_2n,DATA2, AH18 IO_2A_47_LVDS2A_1n,DATA0, AH19 IO_2A_39_LVDS2A_5n,DATA8, AJ16 IO_2A_44_LVDS2A_2p,DATA3, AJ18 IO_2A_46_LVDS2A_1p,DATA1, AJ19 IO_2A_38_LVDS2A_5p,DATA9, AK16 IO_2A_42_LVDS2A_3p,DATA5, AK17 IO_2A_43_LVDS2A_3n,DATA4, AK18 IO_2A_41_LVDS2A_4n,DATA6, AL17 IO_2A_40_LVDS2A_4p,DATA7, AL18 IO_2A_36_LVDS2A_6p,DATA11, AL19 IO_2A_37_LVDS2A_6n,DATA10, AM16 IO_2A_31_LVDS2A_9n,DATA16, AM17 IO_2A_35_LVDS2A_7n,DATA12, AM19 IO_2A_32_LVDS2A_8p,DATA15, AM20 IO_2A_33_LVDS2A_8n,DATA14, AN16 IO_2A_30_LVDS2A_9p,DATA17, AN17 IO_2A_34_LVDS2A_7p,DATA13, AN18 IO_2A_25_LVDS2A_12n,DATA20,CLK_2A_1n, AN19 IO_2A_27_LVDS2A_11n,nCEO, AP16 IO_2A_29_LVDS2A_10n,DATA18,PLL_2A_CLKOUT1n, AP18 IO_2A_24_LVDS2A_12p,DATA21,CLK_2A_1p, AP19 IO_2A_26_LVDS2A_11p,,RZQ_2A, AP20 IO_2A_13_LVDS2A_18n,CLKUSR, AR16 IO_2A_28_LVDS2A_10p,DATA19,PLL_2A_CLKOUT1p,PLL_2A_CLKOUT1,PLL_2A_FB1, AR17 IO_2A_21_LVDS2A_14n,DATA24, AR18 IO_2A_23_LVDS2A_13n,DATA22,CLK_2A_0n, AR20 IO_2A_12_LVDS2A_18p,PR_REQUEST, AT17 IO_2A_20_LVDS2A_14p,DATA25, AT18 IO_2A_22_LVDS2A_13p,DATA23,CLK_2A_0p, AT19 IO_2A_19_LVDS2A_15n,DATA26,PLL_2A_CLKOUT0n, AT20 IO_2A_17_LVDS2A_16n,DATA28, AU16 IO_2A_14_LVDS2A_17p,DATA31, AU17 IO_2A_15_LVDS2A_17n,DATA30, AU19 IO_2A_18_LVDS2A_15p,DATA27,PLL_2A_CLKOUT0p,PLL_2A_CLKOUT0,PLL_2A_FB0, AU20 IO_2A_16_LVDS2A_16p,DATA29, AU21 IO_2A_1_LVDS2A_24n,CRC_ERROR, AV16 IO_2A_11_LVDS2A_19n,PR_READY, AV17 IO_2A_7_LVDS2A_21n,PR_ERROR, AV18 IO_2A_8_LVDS2A_20p,nPERSTL1, AV19 IO_2A_9_LVDS2A_20n,PR_DONE, AV21 IO_2A_0_LVDS2A_24p,DEV_CLRn, AV22 IO_2A_5_LVDS2A_22n,CvP_CONFDONE, AW16 IO_2A_10_LVDS2A_19p,nPERSTL0, AW18 IO_2A_6_LVDS2A_21p,nPERSTR1, AW19 IO_2A_2_LVDS2A_23p,DEV_OE, AW20 IO_2A_3_LVDS2A_23n,INIT_DONE, AW21 IO_2A_4_LVDS2A_22p,nPERSTR0
part N pins: A7 IO_3H_2_LVDS3H_23p, A8 IO_3H_3_LVDS3H_23n, A9 IO_3H_8_LVDS3H_20p, A10 IO_3H_10_LVDS3H_19p, A12 IO_3H_4_LVDS3H_22p, A13 IO_3H_5_LVDS3H_22n, B9 IO_3H_9_LVDS3H_20n, B10 IO_3H_11_LVDS3H_19n, B11 IO_3H_6_LVDS3H_21p, B12 IO_3H_7_LVDS3H_21n, C9 IO_3H_0_LVDS3H_24p, C11 IO_3H_22_LVDS3H_13p,CLK_3H_0p, C12 IO_3H_23_LVDS3H_13n,CLK_3H_0n, C13 IO_3H_30_LVDS3H_9p, C14 IO_3H_32_LVDS3H_8p, D9 IO_3H_1_LVDS3H_24n, D10 IO_3H_14_LVDS3H_17p, D11 IO_3H_20_LVDS3H_14p, D13 IO_3H_31_LVDS3H_9n, D14 IO_3H_33_LVDS3H_8n, E10 IO_3H_15_LVDS3H_17n, E11 IO_3H_21_LVDS3H_14n, E12 IO_3H_28_LVDS3H_10p,PLL_3H_CLKOUT1p,PLL_3H_CLKOUT1,PLL_3H_FB1, E13 IO_3H_29_LVDS3H_10n,PLL_3H_CLKOUT1n, F10 IO_3H_16_LVDS3H_16p, F12 IO_3H_18_LVDS3H_15p,PLL_3H_CLKOUT0p,PLL_3H_CLKOUT0,PLL_3H_FB0, F13 IO_3H_24_LVDS3H_12p,CLK_3H_1p, F14 IO_3H_25_LVDS3H_12n,CLK_3H_1n, G10 IO_3H_17_LVDS3H_16n, G11 IO_3H_12_LVDS3H_18p, G12 IO_3H_19_LVDS3H_15n,PLL_3H_CLKOUT0n, G14 IO_3H_34_LVDS3H_7p, H11 IO_3H_13_LVDS3H_18n, H12 IO_3H_26_LVDS3H_11p,RZQ_3H, H13 IO_3H_27_LVDS3H_11n, H14 IO_3H_35_LVDS3H_7n, J13 IO_3H_42_LVDS3H_3p, J14 IO_3H_43_LVDS3H_3n, K12 IO_3H_36_LVDS3H_6p, K13 IO_3H_37_LVDS3H_6n, L12 IO_3H_38_LVDS3H_5p, L13 IO_3H_39_LVDS3H_5n, L14 IO_3H_40_LVDS3H_4p, L15 IO_3H_41_LVDS3H_4n, M14 IO_3H_44_LVDS3H_2p, N14 IO_3H_45_LVDS3H_2n, P14 IO_3H_46_LVDS3H_1p, P15 IO_3H_47_LVDS3H_1n
part O pins: A4 IO_3G_36_LVDS3G_6p, A5 IO_3G_38_LVDS3G_5p, B4 IO_3G_37_LVDS3G_6n, B5 IO_3G_39_LVDS3G_5n, B6 IO_3G_40_LVDS3G_4p, B7 IO_3G_44_LVDS3G_2p, C2 IO_3G_32_LVDS3G_8p, C3 IO_3G_34_LVDS3G_7p, C4 IO_3G_35_LVDS3G_7n, C6 IO_3G_41_LVDS3G_4n, C7 IO_3G_45_LVDS3G_2n, C8 IO_3G_42_LVDS3G_3p, D3 IO_3G_33_LVDS3G_8n, D4 IO_3G_28_LVDS3G_10p,PLL_3G_CLKOUT1p,PLL_3G_CLKOUT1,PLL_3G_FB1, D5 IO_3G_29_LVDS3G_10n,PLL_3G_CLKOUT1n, D6 IO_3G_26_LVDS3G_11p,RZQ_3G, D8 IO_3G_43_LVDS3G_3n, E5 IO_3G_24_LVDS3G_12p,CLK_3G_1p, E6 IO_3G_27_LVDS3G_11n, E7 IO_3G_30_LVDS3G_9p, E8 IO_3G_46_LVDS3G_1p, F5 IO_3G_25_LVDS3G_12n,CLK_3G_1n, F7 IO_3G_31_LVDS3G_9n, F8 IO_3G_47_LVDS3G_1n, F9 IO_3G_20_LVDS3G_14p, G5 IO_3G_16_LVDS3G_16p, G6 IO_3G_17_LVDS3G_16n, G7 IO_3G_14_LVDS3G_17p, G9 IO_3G_21_LVDS3G_14n, H6 IO_3G_12_LVDS3G_18p, H7 IO_3G_15_LVDS3G_17n, H8 IO_3G_22_LVDS3G_13p,CLK_3G_0p, H9 IO_3G_23_LVDS3G_13n,CLK_3G_0n, J6 IO_3G_13_LVDS3G_18n, J8 IO_3G_18_LVDS3G_15p,PLL_3G_CLKOUT0p,PLL_3G_CLKOUT0,PLL_3G_FB0, J9 IO_3G_2_LVDS3G_23p, J10 IO_3G_3_LVDS3G_23n, J11 IO_3G_8_LVDS3G_20p, K8 IO_3G_19_LVDS3G_15n,PLL_3G_CLKOUT0n, K10 IO_3G_10_LVDS3G_19p, K11 IO_3G_9_LVDS3G_20n, L10 IO_3G_11_LVDS3G_19n, M10 IO_3G_4_LVDS3G_22p, M11 IO_3G_0_LVDS3G_24p, M12 IO_3G_6_LVDS3G_21p, N11 IO_3G_5_LVDS3G_22n, N12 IO_3G_1_LVDS3G_24n, N13 IO_3G_7_LVDS3G_21n
part P pins: C1 IO_3F_44_LVDS3F_2p, D1 IO_3F_45_LVDS3F_2n, E1 IO_3F_42_LVDS3F_3p, E2 IO_3F_43_LVDS3F_3n, E3 IO_3F_40_LVDS3F_4p, F2 IO_3F_38_LVDS3F_5p, F3 IO_3F_41_LVDS3F_4n, F4 IO_3F_46_LVDS3F_1p, G1 IO_3F_36_LVDS3F_6p, G2 IO_3F_39_LVDS3F_5n, G4 IO_3F_47_LVDS3F_1n, H1 IO_3F_32_LVDS3F_8p, H2 IO_3F_37_LVDS3F_6n, H3 IO_3F_30_LVDS3F_9p, H4 IO_3F_31_LVDS3F_9n, J1 IO_3F_33_LVDS3F_8n, J3 IO_3F_24_LVDS3F_12p,CLK_3F_1p, J4 IO_3F_34_LVDS3F_7p, J5 IO_3F_35_LVDS3F_7n, K1 IO_3F_28_LVDS3F_10p,PLL_3F_CLKOUT1p,PLL_3F_CLKOUT1,PLL_3F_FB1, K2 IO_3F_29_LVDS3F_10n,PLL_3F_CLKOUT1n, K3 IO_3F_25_LVDS3F_12n,CLK_3F_1n, K5 IO_3F_20_LVDS3F_14p, K6 IO_3F_21_LVDS3F_14n, K7 IO_3F_18_LVDS3F_15p,PLL_3F_CLKOUT0p,PLL_3F_CLKOUT0,PLL_3F_FB0, L2 IO_3F_26_LVDS3F_11p,RZQ_3F, L3 IO_3F_27_LVDS3F_11n, L4 IO_3F_14_LVDS3F_17p, L5 IO_3F_12_LVDS3F_18p, L7 IO_3F_19_LVDS3F_15n,PLL_3F_CLKOUT0n, L8 IO_3F_0_LVDS3F_24p, L9 IO_3F_1_LVDS3F_24n, M4 IO_3F_15_LVDS3F_17n, M5 IO_3F_13_LVDS3F_18n, M6 IO_3F_16_LVDS3F_16p, M7 IO_3F_17_LVDS3F_16n, M9 IO_3F_9_LVDS3F_20n, N6 IO_3F_22_LVDS3F_13p,CLK_3F_0p, N7 IO_3F_23_LVDS3F_13n,CLK_3F_0n, N8 IO_3F_8_LVDS3F_20p, N9 IO_3F_10_LVDS3F_19p, P8 IO_3F_4_LVDS3F_22p, P9 IO_3F_6_LVDS3F_21p, P10 IO_3F_11_LVDS3F_19n, P11 IO_3F_2_LVDS3F_23p, R8 IO_3F_5_LVDS3F_22n, R10 IO_3F_7_LVDS3F_21n, R11 IO_3F_3_LVDS3F_23n
part Q pins: M1 IO_3E_46_LVDS3E_1p, M2 IO_3E_47_LVDS3E_1n, N1 IO_3E_40_LVDS3E_4p, N2 IO_3E_41_LVDS3E_4n, N3 IO_3E_44_LVDS3E_2p, N4 IO_3E_45_LVDS3E_2n, P1 IO_3E_38_LVDS3E_5p, P3 IO_3E_36_LVDS3E_6p, P4 IO_3E_37_LVDS3E_6n, P5 IO_3E_34_LVDS3E_7p, P6 IO_3E_35_LVDS3E_7n, R1 IO_3E_39_LVDS3E_5n, R2 IO_3E_42_LVDS3E_3p, R3 IO_3E_43_LVDS3E_3n, R5 IO_3E_32_LVDS3E_8p, R6 IO_3E_0_LVDS3E_24p, R7 IO_3E_1_LVDS3E_24n, T2 IO_3E_20_LVDS3E_14p,, T3 IO_3E_21_LVDS3E_14n,, T4 IO_3E_22_LVDS3E_13p,CLK_3E_0p, T5 IO_3E_33_LVDS3E_8n, T7 IO_3E_30_LVDS3E_9p, T8 IO_3E_6_LVDS3E_21p, T9 IO_3E_7_LVDS3E_21n, U1 IO_3E_18_LVDS3E_15p,PLL_3E_CLKOUT0p,PLL_3E_CLKOUT0,PLL_3E_FB0, U2 IO_3E_19_LVDS3E_15n,PLL_3E_CLKOUT0n, U4 IO_3E_23_LVDS3E_13n,CLK_3E_0n, U5 IO_3E_28_LVDS3E_10p,PLL_3E_CLKOUT1p,PLL_3E_CLKOUT1,PLL_3E_FB1, U6 IO_3E_29_LVDS3E_10n,PLL_3E_CLKOUT1n, U7 IO_3E_31_LVDS3E_9n, U9 IO_3E_10_LVDS3E_19p, U10 IO_3E_11_LVDS3E_19n, U11 IO_3E_2_LVDS3E_23p, V1 IO_3E_16_LVDS3E_16p, V2 IO_3E_17_LVDS3E_16n, V3 IO_3E_12_LVDS3E_18p, V4 IO_3E_13_LVDS3E_18n, V6 IO_3E_26_LVDS3E_11p,RZQ_3E, V7 IO_3E_27_LVDS3E_11n,, V8 IO_3E_8_LVDS3E_20p, V9 IO_3E_9_LVDS3E_20n, V11 IO_3E_3_LVDS3E_23n, W3 IO_3E_14_LVDS3E_17p, W4 IO_3E_15_LVDS3E_17n, W5 IO_3E_24_LVDS3E_12p,CLK_3E_1p, W6 IO_3E_25_LVDS3E_12n,CLK_3E_1n, W9 IO_3E_4_LVDS3E_22p, W10 IO_3E_5_LVDS3E_22n
part R pins: AA2 IO_3D_16_LVDS3D_16p, AA3 IO_3D_17_LVDS3D_16n, AA4 IO_3D_19_LVDS3D_15n,PLL_3D_CLKOUT0n, AA5 IO_3D_32_LVDS3D_8p, AA7 IO_3D_40_LVDS3D_4p, AA8 IO_3D_41_LVDS3D_4n, AA9 IO_3D_44_LVDS3D_2p, AA10 IO_3D_42_LVDS3D_3p, AB1 IO_3D_14_LVDS3D_17p, AB2 IO_3D_15_LVDS3D_17n, AB4 IO_3D_18_LVDS3D_15p,PLL_3D_CLKOUT0p,PLL_3D_CLKOUT0,PLL_3D_FB0, AB5 IO_3D_24_LVDS3D_12p,CLK_3D_1p, AB6 IO_3D_25_LVDS3D_12n,CLK_3D_1n, AB7 IO_3D_37_LVDS3D_6n, AB9 IO_3D_38_LVDS3D_5p, AB10 IO_3D_39_LVDS3D_5n, AB11 IO_3D_43_LVDS3D_3n, AC1 IO_3D_11_LVDS3D_19n, AC2 IO_3D_8_LVDS3D_20p, AC3 IO_3D_12_LVDS3D_18p, AC4 IO_3D_13_LVDS3D_18n, AC6 IO_3D_27_LVDS3D_11n, AC7 IO_3D_36_LVDS3D_6p, AD1 IO_3D_10_LVDS3D_19p, AD3 IO_3D_9_LVDS3D_20n, AD4 IO_3D_30_LVDS3D_9p, AD5 IO_3D_31_LVDS3D_9n, AD6 IO_3D_26_LVDS3D_11p,RZQ_3D, AE1 IO_3D_2_LVDS3D_23p, AE2 IO_3D_3_LVDS3D_23n, AE3 IO_3D_1_LVDS3D_24n, AE5 IO_3D_28_LVDS3D_10p,PLL_3D_CLKOUT1p,PLL_3D_CLKOUT1,PLL_3D_FB1, AE6 IO_3D_29_LVDS3D_10n,PLL_3D_CLKOUT1n, AF2 IO_3D_7_LVDS3D_21n, AF3 IO_3D_0_LVDS3D_24p, AG1 IO_3D_5_LVDS3D_22n, AG2 IO_3D_6_LVDS3D_21p, AH1 IO_3D_4_LVDS3D_22p, W1 IO_3D_21_LVDS3D_14n, W8 IO_3D_47_LVDS3D_1n, Y1 IO_3D_20_LVDS3D_14p, Y2 IO_3D_22_LVDS3D_13p,CLK_3D_0p, Y3 IO_3D_23_LVDS3D_13n,CLK_3D_0n, Y5 IO_3D_33_LVDS3D_8n, Y6 IO_3D_34_LVDS3D_7p, Y7 IO_3D_35_LVDS3D_7n, Y8 IO_3D_46_LVDS3D_1p, Y10 IO_3D_45_LVDS3D_2n
part S pins: AC8 IO_3C_46_LVDS3C_1p, AC9 IO_3C_47_LVDS3C_1n, AC11 IO_3C_39_LVDS3C_5n, AD8 IO_3C_42_LVDS3C_3p, AD9 IO_3C_43_LVDS3C_3n, AD10 IO_3C_38_LVDS3C_5p, AE7 IO_3C_31_LVDS3C_9n, AE8 IO_3C_41_LVDS3C_4n, AE10 IO_3C_44_LVDS3C_2p, AE11 IO_3C_45_LVDS3C_2n, AF4 IO_3C_32_LVDS3C_8p, AF5 IO_3C_33_LVDS3C_8n, AF7 IO_3C_30_LVDS3C_9p, AF8 IO_3C_40_LVDS3C_4p, AF9 IO_3C_36_LVDS3C_6p, AF10 IO_3C_37_LVDS3C_6n, AG4 IO_3C_35_LVDS3C_7n, AG5 IO_3C_24_LVDS3C_12p,CLK_3C_1p, AG6 IO_3C_25_LVDS3C_12n,CLK_3C_1n, AG7 IO_3C_27_LVDS3C_11n, AH2 IO_3C_11_LVDS3C_19n, AH3 IO_3C_29_LVDS3C_10n,PLL_3C_CLKOUT1n, AH4 IO_3C_34_LVDS3C_7p, AH6 IO_3C_23_LVDS3C_13n,CLK_3C_0n, AH7 IO_3C_26_LVDS3C_11p,RZQ_3C, AJ1 IO_3C_10_LVDS3C_19p, AJ3 IO_3C_28_LVDS3C_10p,PLL_3C_CLKOUT1p,PLL_3C_CLKOUT1,PLL_3C_FB1, AJ4 IO_3C_21_LVDS3C_14n, AJ5 IO_3C_22_LVDS3C_13p,CLK_3C_0p, AJ6 IO_3C_19_LVDS3C_15n,PLL_3C_CLKOUT0n, AK1 IO_3C_8_LVDS3C_20p, AK2 IO_3C_9_LVDS3C_20n, AK3 IO_3C_20_LVDS3C_14p, AK5 IO_3C_17_LVDS3C_16n, AK6 IO_3C_18_LVDS3C_15p,PLL_3C_CLKOUT0p,PLL_3C_CLKOUT0,PLL_3C_FB0, AL2 IO_3C_3_LVDS3C_23n, AL3 IO_3C_14_LVDS3C_17p, AL4 IO_3C_15_LVDS3C_17n, AL5 IO_3C_16_LVDS3C_16p, AM1 IO_3C_6_LVDS3C_21p, AM2 IO_3C_2_LVDS3C_23p, AM4 IO_3C_13_LVDS3C_18n, AN1 IO_3C_7_LVDS3C_21n, AN2 IO_3C_1_LVDS3C_24n, AN3 IO_3C_12_LVDS3C_18p, AP1 IO_3C_0_LVDS3C_24p, AR1 IO_3C_4_LVDS3C_22p, AR2 IO_3C_5_LVDS3C_22n
part T pins: AF12 IO_3B_43_LVDS3B_3n, AG9 IO_3B_40_LVDS3B_4p, AG10 IO_3B_41_LVDS3B_4n, AG11 IO_3B_39_LVDS3B_5n, AG12 IO_3B_42_LVDS3B_3p, AH8 IO_3B_47_LVDS3B_1n, AH9 IO_3B_45_LVDS3B_2n, AH11 IO_3B_38_LVDS3B_5p, AJ8 IO_3B_46_LVDS3B_1p, AJ9 IO_3B_44_LVDS3B_2p, AJ10 IO_3B_36_LVDS3B_6p, AJ11 IO_3B_37_LVDS3B_6n, AK7 IO_3B_35_LVDS3B_7n, AK8 IO_3B_31_LVDS3B_9n, AK10 IO_3B_25_LVDS3B_12n,CLK_3B_1n, AL7 IO_3B_34_LVDS3B_7p, AL8 IO_3B_30_LVDS3B_9p, AL9 IO_3B_24_LVDS3B_12p,CLK_3B_1p, AM5 IO_3B_23_LVDS3B_13n,CLK_3B_0n, AM6 IO_3B_33_LVDS3B_8n, AM7 IO_3B_29_LVDS3B_10n,PLL_3B_CLKOUT1n, AM9 IO_3B_27_LVDS3B_11n, AN4 IO_3B_22_LVDS3B_13p,CLK_3B_0p, AN6 IO_3B_32_LVDS3B_8p, AN7 IO_3B_28_LVDS3B_10p,PLL_3B_CLKOUT1p,PLL_3B_CLKOUT1,PLL_3B_FB1, AN8 IO_3B_26_LVDS3B_11p,RZQ_3B, AP3 IO_3B_21_LVDS3B_14n, AP4 IO_3B_18_LVDS3B_15p,PLL_3B_CLKOUT0p,PLL_3B_CLKOUT0,PLL_3B_FB0, AP5 IO_3B_19_LVDS3B_15n,PLL_3B_CLKOUT0n, AP6 IO_3B_17_LVDS3B_16n, AR3 IO_3B_20_LVDS3B_14p, AR5 IO_3B_16_LVDS3B_16p, AR6 IO_3B_8_LVDS3B_20p, AR7 IO_3B_9_LVDS3B_20n, AT2 IO_3B_12_LVDS3B_18p, AT3 IO_3B_13_LVDS3B_18n, AT4 IO_3B_10_LVDS3B_19p, AT5 IO_3B_11_LVDS3B_19n, AU1 IO_3B_14_LVDS3B_17p, AU2 IO_3B_15_LVDS3B_17n, AU4 IO_3B_7_LVDS3B_21n, AU5 IO_3B_2_LVDS3B_23p, AU6 IO_3B_3_LVDS3B_23n, AV4 IO_3B_6_LVDS3B_21p, AV6 IO_3B_5_LVDS3B_22n, AW4 IO_3B_0_LVDS3B_24p, AW5 IO_3B_1_LVDS3B_24n, AW6 IO_3B_4_LVDS3B_22p
part U pins: AF14 IO_3A_5_LVDS3A_22n, AF15 IO_3A_1_LVDS3A_24n, AG14 IO_3A_4_LVDS3A_22p, AG15 IO_3A_0_LVDS3A_24p, AH12 IO_3A_8_LVDS3A_20p, AH13 IO_3A_9_LVDS3A_20n, AH14 IO_3A_3_LVDS3A_23n, AJ13 IO_3A_7_LVDS3A_21n, AJ14 IO_3A_2_LVDS3A_23p, AJ15 IO_3A_11_LVDS3A_19n, AK11 IO_3A_20_LVDS3A_14p, AK12 IO_3A_21_LVDS3A_14n, AK13 IO_3A_6_LVDS3A_21p, AK15 IO_3A_10_LVDS3A_19p, AL10 IO_3A_23_LVDS3A_13n,CLK_3A_0n, AL12 IO_3A_19_LVDS3A_15n,PLL_3A_CLKOUT0n, AL13 IO_3A_14_LVDS3A_17p, AL14 IO_3A_15_LVDS3A_17n, AM10 IO_3A_22_LVDS3A_13p,CLK_3A_0p, AM11 IO_3A_17_LVDS3A_16n, AM12 IO_3A_18_LVDS3A_15p,PLL_3A_CLKOUT0p,PLL_3A_CLKOUT0,PLL_3A_FB0, AN9 IO_3A_31_LVDS3A_9n, AN11 IO_3A_16_LVDS3A_16p, AN12 IO_3A_12_LVDS3A_18p, AN13 IO_3A_13_LVDS3A_18n, AP8 IO_3A_35_LVDS3A_7n, AP9 IO_3A_30_LVDS3A_9p, AP10 IO_3A_29_LVDS3A_10n,PLL_3A_CLKOUT1n, AP11 IO_3A_25_LVDS3A_12n,CLK_3A_1n, AR8 IO_3A_34_LVDS3A_7p, AR10 IO_3A_28_LVDS3A_10p,PLL_3A_CLKOUT1p,PLL_3A_CLKOUT1,PLL_3A_FB1, AR11 IO_3A_24_LVDS3A_12p,CLK_3A_1p, AR12 IO_3A_27_LVDS3A_11n, AT7 IO_3A_44_LVDS3A_2p, AT8 IO_3A_45_LVDS3A_2n, AT9 IO_3A_42_LVDS3A_3p, AT10 IO_3A_43_LVDS3A_3n, AT12 IO_3A_26_LVDS3A_11p,RZQ_3A, AU7 IO_3A_47_LVDS3A_1n, AU9 IO_3A_39_LVDS3A_5n, AU10 IO_3A_32_LVDS3A_8p, AU11 IO_3A_33_LVDS3A_8n, AV7 IO_3A_46_LVDS3A_1p, AV8 IO_3A_41_LVDS3A_4n, AV9 IO_3A_38_LVDS3A_5p, AW8 IO_3A_40_LVDS3A_4p, AW9 IO_3A_36_LVDS3A_6p, AW10 IO_3A_37_LVDS3A_6n
part V pins: W15 REFCLK_GXBR4F_CHTp, W16 REFCLK_GXBR4F_CHTn
part W pins: AL15 TDI, AM14 nCONFIG, AM15 nCE, AN14 DCLK, AP13 AS_DATA0,ASDO, AP15 MSEL1, AR13 TRST, AT13 CONF_DONE, AT14 nIO_PULLUP, AT15 MSEL2, AU12 nSTATUS, AU14 nCSO0, AU15 MSEL0, AV11 AS_DATA2, AV12 nCSO1, AV13 TMS, AV14 nCSO2, AW11 AS_DATA1, AW13 AS_DATA3, AW14 TDO, AW15 TCK
part X pins: A2 RREF_TR, A3 VCCR_GXBR4F, A28 RREF_TL, AB28 VCCR_GXBL1F, AB29 VCCR_GXBL1F, AD27 VCCH_GXBL, AD28 VCCT_GXBL1E, AD29 VCCT_GXBL1E, AF28 VCCR_GXBL1E, AF29 VCCR_GXBL1E, AH27 VCCH_GXBL, AH28 VCCT_GXBL1D, AH29 VCCT_GXBL1D, AK28 VCCR_GXBL1D, AK29 VCCR_GXBL1D, AM27 VCCH_GXBL, AM28 VCCT_GXBL1C, AM29 VCCT_GXBL1C, AP28 VCCR_GXBL1C, AP29 VCCR_GXBL1C, AV1 VCCH_GXBR, AW2 RREF_BR, AW3 VCCR_GXBR4F, AW30 RREF_BL, B1 VCCH_GXBR, D27 VCCH_GXBL, D28 VCCT_GXBL1J, D29 VCCT_GXBL1J, F28 VCCR_GXBL1J, F29 VCCR_GXBL1J, H27 VCCH_GXBL, H28 VCCT_GXBL1I, H29 VCCT_GXBL1I, K28 VCCR_GXBL1I, K29 VCCR_GXBL1I, M27 VCCH_GXBL, M28 VCCT_GXBL1H, M29 VCCT_GXBL1H, P28 VCCR_GXBL1H, P29 VCCR_GXBL1H, T27 VCCH_GXBL, T28 VCCT_GXBL1G, T29 VCCT_GXBL1G, V28 VCCR_GXBL1G, V29 VCCR_GXBL1G, Y27 VCCH_GXBL, Y28 VCCT_GXBL1F, Y29 VCCT_GXBL1F
part Y pins: A6 GND, A11 GND, A16 GND, A21 GND, A27 GND, A29 GND, A30 GND, A31 GND, A34 GND, A35 GND, A38 GND, AA1 GND, AA11 GND, AA17 GND, AA21 GND, AA26 GND, AA27 GND, AA30 GND, AA31 GND, AA34 GND, AA35 GND, AA38 GND, AA39 GND, AB3 GND, AB8 GND, AB13 GND, AB18 GND, AB23 GND, AB26 GND, AB27 GND, AB32 GND, AB33 GND, AB36 GND, AB37 GND, AC10 GND, AC15 GND, AC20 GND, AC22 GND, AC25 GND, AC27 GND, AC30 GND, AC31 GND, AC34 GND, AC35 GND, AC38 GND, AC39 GND, AD2 GND, AD12 GND, AD26 GND, AD32 GND, AD33 GND, AD36 GND, AD37 GND, AE4 GND, AE9 GND, AE19 GND, AE24 GND, AE26 GND, AE27 GND, AE30 GND, AE31 GND, AE34 GND, AE35 GND, AE38 GND, AE39 GND, AF1 GND, AF6 GND, AF11 GND, AF16 GND, AF26 GND, AF27 GND, AF32 GND, AF33 GND, AF36 GND, AF37 GND, AG3 GND, AG13 GND, AG18 GND, AG23 GND, AG26 GND, AG27 GND, AG30 GND, AG31 GND, AG34 GND, AG35 GND, AG38 GND, AG39 GND, AH10 GND, AH15 GND, AH20 GND, AH26 GND, AH32 GND, AH33 GND, AH36 GND, AH37 GND, AJ2 GND, AJ7 GND, AJ12 GND, AJ17 GND, AJ22 GND, AJ27 GND, AJ30 GND, AJ31 GND, AJ34 GND, AJ35 GND, AJ38 GND, AJ39 GND, AK4 GND, AK27 GND, AK32 GND, AK33 GND, AK36 GND, AK37 GND, AL1 GND, AL16 GND, AL27 GND, AL30 GND, AL31 GND, AL34 GND, AL35 GND, AL38 GND, AL39 GND, AM3 GND, AM23 GND, AM26 GND, AM32 GND, AM33 GND, AM36 GND, AM37 GND, AN10 GND, AN15 GND, AN20 GND, AN27 GND, AN30 GND, AN31 GND, AN34 GND, AN35 GND, AN38 GND, AP14 GND, AR15 GND
part Z pins: AN5 GND, AN39 GND, AP2 GND, AP7 GND, AP12 GND, AP27 GND, AP32 GND, AP33 GND, AP36 GND, AP37 GND, AR4 GND, AR9 GND, AR14 GND, AR19 GND, AR27 GND, AR30 GND, AR31 GND, AR34 GND, AR35 GND, AR38 GND, AR39 GND, AT1 GND, AT6 GND, AT11 GND, AT16 GND, AT27 GND, AT28 GND, AT29 GND, AT32 GND, AT33 GND, AT36 GND, AT37 GND, AU3 GND, AU8 GND, AU13 GND, AU18 GND, AU23 GND, AU29 GND, AU30 GND, AU31 GND, AU34 GND, AU35 GND, AU38 GND, AU39 GND, AV5 GND, AV10 GND, AV15 GND, AV20 GND, AV25 GND, AV31 GND, AV32 GND, AV33 GND, AV36 GND, AV37 GND, AW7 GND, AW12 GND, AW17 GND, AW22 GND, AW27 GND, AW29 GND, AW31 GND, AW34 GND, AW35 GND, AW38 GND, B2 GND, B3 GND, B8 GND, B13 GND, B18 GND, B23 GND, B25 GND, B27 GND, B28 GND, B29 GND, B32 GND, B33 GND, B36 GND, B37 GND, C5 GND, C10 GND, C15 GND, C20 GND, C27 GND, C28 GND, C29 GND, C30 GND, C31 GND, C34 GND, C35 GND, C38 GND, C39 GND, D2 GND, D7 GND, D12 GND, D17 GND, D22 GND, D26 GND, D32 GND, D33 GND, D36 GND, D37 GND, E4 GND, E9 GND, E14 GND, E19 GND, E27 GND, E30 GND, E31 GND, E34 GND, E35 GND, E38 GND, E39 GND, F1 GND, F6 GND, F11 GND, F16 GND, F21 GND, F27 GND, F32 GND, F33 GND, F36 GND, F37 GND, G3 GND, G18 GND, G23 GND, G27 GND, G30 GND, G31 GND, G34 GND, G35 GND, G38 GND, G39 GND, H5 GND, H10 GND, H15 GND, H26 GND, H32 GND, H33 GND, H36 GND, H37 GND
part 27 pins: AA18 GNDSENSE, J2 GND, J7 GND, J17 GND, J27 GND, J30 GND, J31 GND, J34 GND, J35 GND, J38 GND, J39 GND, K27 GND, K32 GND, K33 GND, K36 GND, K37 GND, L1 GND, L16 GND, L21 GND, L27 GND, L30 GND, L31 GND, L34 GND, L35 GND, L38 GND, L39 GND, M3 GND, M13 GND, M16 GND, M18 GND, M23 GND, M26 GND, M32 GND, M33 GND, M36 GND, M37 GND, N5 GND, N10 GND, N15 GND, N16 GND, N17 GND, N18 GND, N21 GND, N26 GND, N27 GND, N30 GND, N31 GND, N34 GND, N35 GND, N38 GND, N39 GND, P2 GND, P7 GND, P12 GND, P16 GND, P17 GND, P18 GND, P26 GND, P27 GND, P32 GND, P33 GND, P36 GND, P37 GND, R9 GND, R18 GND, R19 GND, R24 GND, R26 GND, R27 GND, R30 GND, R31 GND, R34 GND, R35 GND, R38 GND, R39 GND, T1 GND, T11 GND, T16 GND, T21 GND, T26 GND, T32 GND, T33 GND, T36 GND, T37 GND, U3 GND, U8 GND, U13 GND, U18 GND, U23 GND, U27 GND, U30 GND, U31 GND, U34 GND, U35 GND, U38 GND, U39 GND, V10 GND, V15 GND, V20 GND, V25 GND, V26 GND, V27 GND, V32 GND, V33 GND, V36 GND, V37 GND, W2 GND, W7 GND, W12 GND, W17 GND, W22 GND, W26 GND, W27 GND, W30 GND, W31 GND, W34 GND, W35 GND, W38 GND, W39 GND, Y9 GND, Y15 GND, Y19 GND, Y24 GND, Y26 GND, Y32 GND, Y33 GND, Y36 GND, Y37 GND
part 28 pins: AA12 VCC, AA13 VCC, AA14 VCC, AA15 VCC, AA16 VCC, AA19 VCCLSENSE, AA20 VCC, AA22 VCC, AA23 VCC, AA24 VCC, AA25 VCC, AB12 VCC, AB14 VCCPT, AB15 VCC, AB16 VCC, AB17 VCC, AB19 VCC, AB20 VCC, AB21 VCC, AB22 VCC, AB24 VCC, AB25 VCC, AC12 VCC, AC13 VCC, AC14 VCCPT, AC16 VCCPT, AC17 VCCPT, AC18 VCC, AC19 VCCPT, AC21 VCCPT, AC23 VCC, AC24 VCC, AC26 VCC, AD13 VCC, AD14 VCCP, AD15 VCCP, AD16 VCCP, AD17 VCC, AD18 VCC, AD19 VCC, AD20 VCCP, AD21 VCC, AD22 VCC, AD23 VCC, AD24 VCCP, AD25 VCCP, AE12 VCC, AE13 VCC, AE14 VCC, AE15 VCC, AE16 VCC, AE17 VCC, AE18 VCCBAT, AE21 VCC, AE22 VCC, AE25 VCC, AF17 DNU, AF18 VCCPGM, AF19 VCCPGM, AF21 VCC, AF22 VCC, AG16 DNU, AG17 DNU, AV2 DNU, AV3 DNU, AV29 DNU, AV30 DNU, E15 NC, E16 NC, F15 NC, G15 NC, G16 NC, H16 NC, H17 NC, J15 NC, J16 NC, K15 NC, K16 NC, K17 NC, L17 NC, L18 NC, M17 NC, M19 NC, N19 NC, P19 NC, P21 VCC, P23 VCC, R12 VCC, R13 VCC, R14 VCC, R15 VCC, R16 VCC, R17 VCC, R20 VCC, R21 VCC, R22 VCC, R23 VCC, R25 VCC, T12 VCC, T13 VCC, T14 VCCP, T15 VCCP, T17 VCCP, T18 VCC, T19 VCCP, T20 VCCP, T22 VCC, T23 VCCP, T24 VCCP, T25 VCC, U12 VCC, U14 VCC, U15 VCCPT, U16 VCCPT, U17 VCCPT, U19 VCC, U20 VCCPT, U21 VCCPT, U22 VCCPT, U24 VCC, U25 VCC, U26 VCC, V12 VCC, V13 VCC, V14 VCC, V16 VCC, V17 VCC, V18 VCC, V19 VCC, V21 VCC, V22 VCC, V23 VCC, V24 VCC, W13 VCC, W14 VCC, W18 VCCA_PLL, W19 VCCA_PLL, W20 VCC, W21 VCC, W23 VCC, W24 VCC, W25 VCC, Y12 VCCERAM, Y13 VCCERAM, Y14 VCC, Y16 VCC, Y17 VCC, Y18 VCCERAM, Y20 VCC, Y21 VCCERAM, Y22 VCCERAM, Y23 VCCERAM, Y25 VCC
part 29 pins: A14 VSIGP_1, A15 VSIGP_0, B14 VSIGN_1, B15 VSIGN_0, B16 TEMPDIODEn, B17 ADCGND, C16 TEMPDIODEp, D15 VREFN_ADC, D16 VREFP_ADC
part 30 pins: AA6 VCCIO3D, AC5 VCCIO3D, AD7 VCCIO3C, AD11 VREFB3CN0, AE23 VREFB2IN0, AF13 VREFB3BN0, AF23 VREFB2JN0, AG8 VCCIO3C, AG19 VREFB2AN0, AH5 VCCIO3C, AH16 VREFB3AN0, AK9 VCCIO3B, AK14 VCCIO3A, AK19 VCCIO2A, AK24 VCCIO2J, AL6 VCCIO3B, AL11 VCCIO3A, AL21 VCCIO2I, AM8 VCCIO3B, AM13 VCCIO3A, AM18 VCCIO2A, AN25 VCCIO2J, AP17 VCCIO2A, AP22 VCCIO2I, AR24 VCCIO2J, AT21 VCCIO2I, E24 VCCIO2K, G8 VCCIO3G, G13 VCCIO3H, H20 VCCIO2L, H25 VCCIO2K, J12 VCCIO3H, J22 VCCIO2L, K4 VCCIO3F, K9 VCCIO3G, K14 VCCIO3H, K19 VCCIO2L, K24 VCCIO2K, L6 VCCIO3F, L11 VCCIO3G, M8 VCCIO3F, M15 VREFB3HN0, P13 VREFB3GN0, P22 VREFB2LN0, P24 VREFB2KN0, R4 VCCIO3E, T6 VCCIO3E, T10 VREFB3FN0, V5 VCCIO3E, W11 VREFB3EN0, Y4 VCCIO3D, Y11 VREFB3DN0
part A text: BANK 1J
part B text: BANK 1I
part C text: BANK 1H
part D text: BANK 1G
part E text: BANK 1F
part F text: BANK 1E
part G text: BANK 1D
part H text: BANK 1C
part I text: BANK 2L
part J text: BANK 2K
part K text: BANK 2J
part L text: BANK 2I
part M text: BANK 2A
part N text: BANK 3H
part O text: BANK 3G
part P text: BANK 3F
part Q text: BANK 3E
part R text: BANK 3D
part S text: BANK 3C
part T text: BANK 3B
part U text: BANK 3A
part V text: BANK 4F
part W text: Configuration
part X text: Power XCVR
part Y text: GND1
part Z text: GND2
part 27 text: GND3
part 28 text: Power Core
part 29 text: ADC
part 30 text: Power VCCIO & REF